# Altium integrated library Infineon Microcontroller 32-bit TriCore AURIX.IntLib: 81 symbols (part 1 of 8)
Pins are listed as number, name and electrical type; pins without a type are passive.

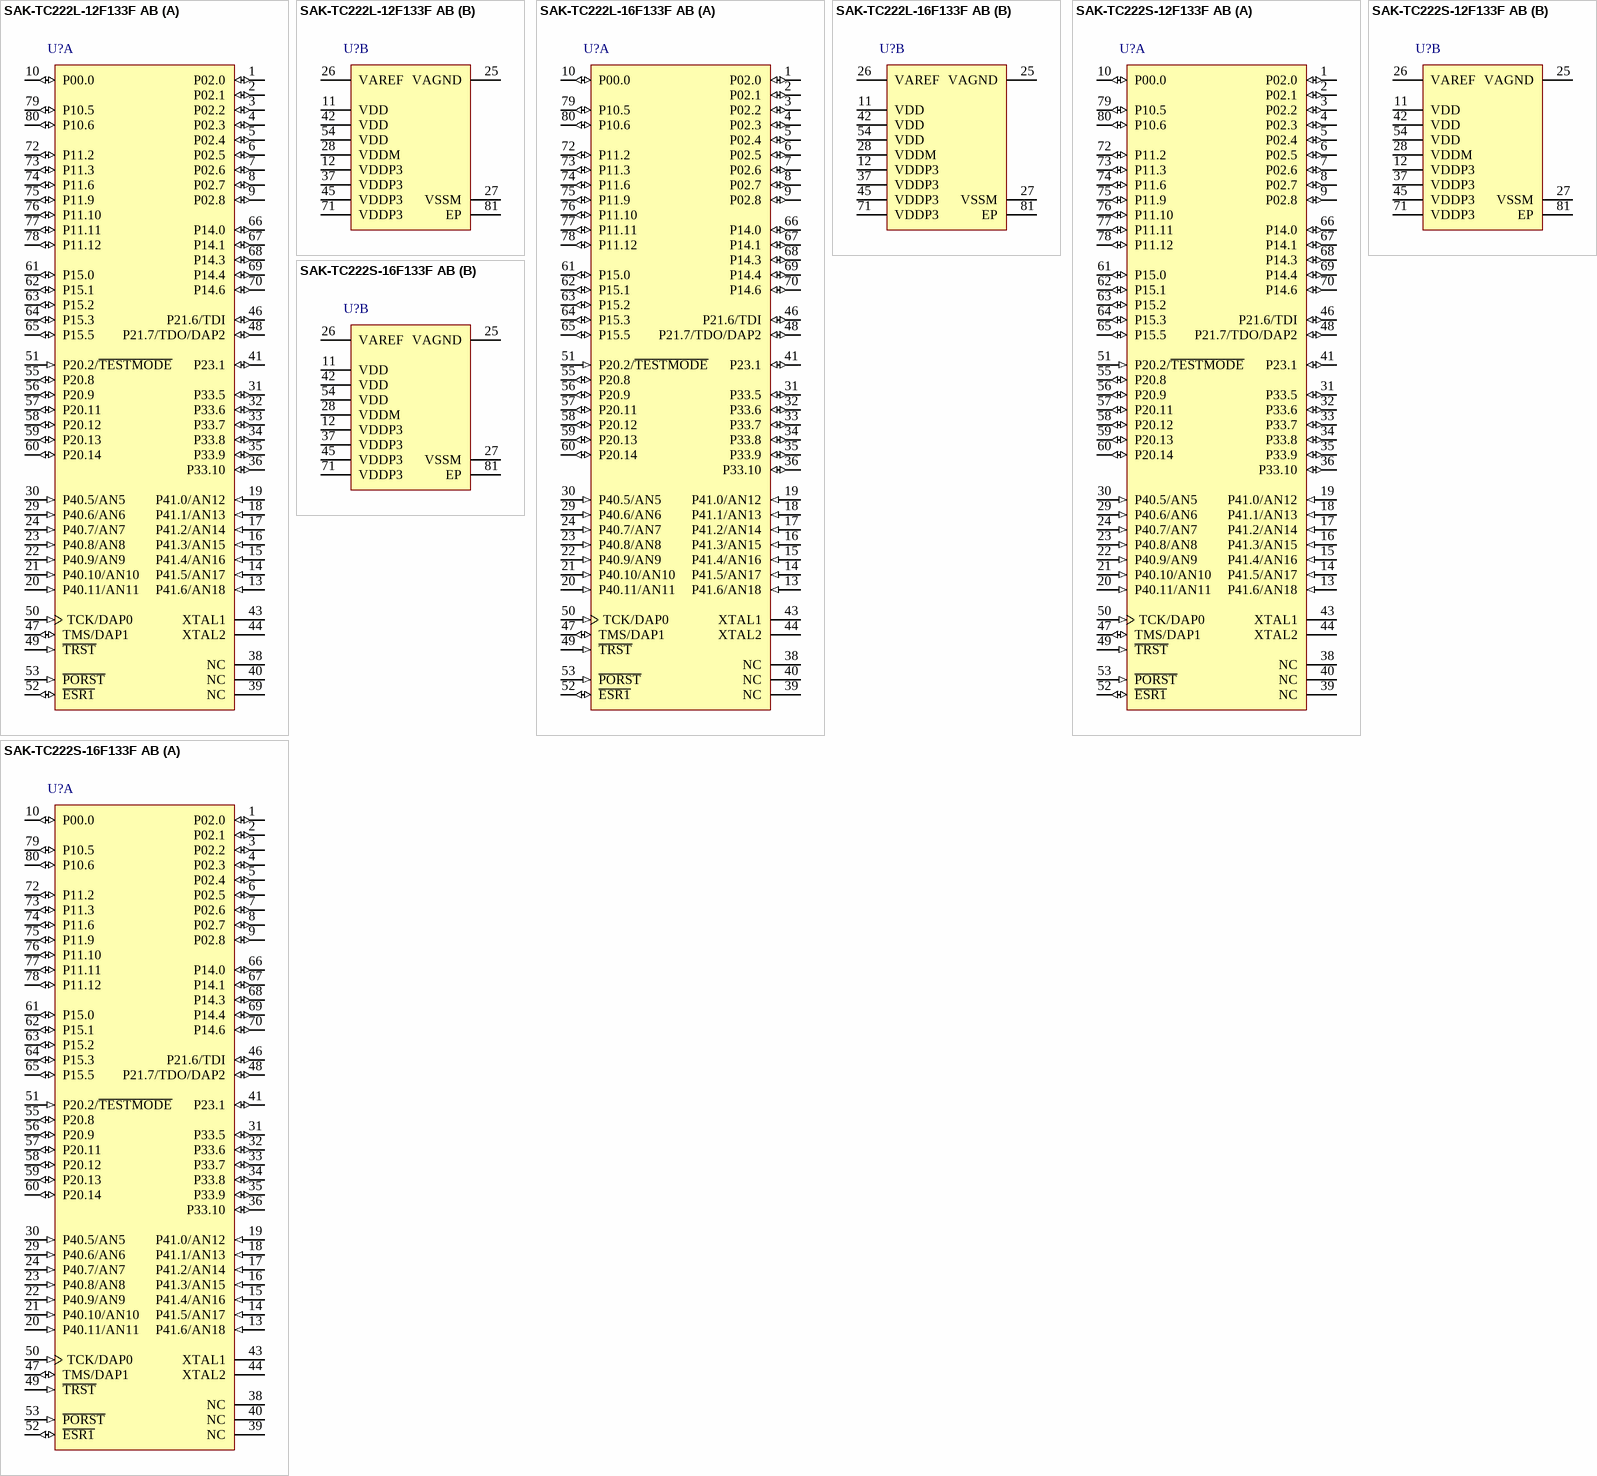
[diagram p0: symbols SAK-TC222L-12F133F AB to SAK-TC222S-16F133F AB]

## SAK-TC222L-12F133F AB
designator U?
32-bit multi-core TriCore AURIX microcontroller with 64 KB SRAM, 0.75 MB Flash, 133 MHz Frequency, -40 to 125 degC, PG-TQFP-80; Manufacturer: Infineon; ADC Chan.: 14; Core 0 TC16E DSPR (KB): 88; Core 0 TC16E PSPR (KB): 8; DFLASH (KB@cycles): 64@125k; ETH: No; Flash (MB): 0.75; Freq. (MHz): 133; Lock-step: Yes; Total SRAM (KB): 64; Derivative: SAK-TC222L-12F133F AB; DatasheetVersion: Rev. 0.7; PackageReference: PG-TQFP-80-7; PackageDescription: 80-Pin Plastic (Green) Low Profile Quad Flat Package, 10 x 10 mm Body, 0.4 mm Pitch; FlexRay (#/ch.): No; HSM: No; Supplier Part Reference: TC222L12F133FABKXUMA1; Mounting Technology: Surface Mount; PartNumber: SAK-TC222L-12F133F AB; ComponentLink1Description: Manufacturer URL; ComponentLink1URL: http://www.infineon.com/
footprint INF-PG-TQFP-80-7-5700X5700TP_V (QFP, 80-Leads, Body 10x10mm, Pitch 0.4mm, Thermal Pad 5.7x5.7mm)
part A pins: 1 P02.0 (io), 2 P02.1 (io), 3 P02.2 (io), 4 P02.3 (io), 5 P02.4 (io), 6 P02.5 (io), 7 P02.6 (io), 8 P02.7 (io), 9 P02.8 (io), 10 P00.0 (io), 13 P41.6/AN18 (in), 14 P41.5/AN17 (in), 15 P41.4/AN16 (in), 16 P41.3/AN15 (in), 17 P41.2/AN14 (in), 18 P41.1/AN13 (in), 19 P41.0/AN12 (in), 20 P40.11/AN11 (in), 21 P40.10/AN10 (in), 22 P40.9/AN9 (in), 23 P40.8/AN8 (in), 24 P40.7/AN7 (in), 29 P40.6/AN6 (in), 30 P40.5/AN5 (in), 31 P33.5 (io), 32 P33.6 (io), 33 P33.7 (io), 34 P33.8 (io), 35 P33.9 (io), 36 P33.10 (io), 38 NC, 39 NC, 40 NC, 41 P23.1 (io), 43 XTAL1, 44 XTAL2, 46 P21.6/TDI (io), 47 TMS/DAP1 (io), 48 P21.7/TDO/DAP2 (io), 49 ~{TRST} (in), 50 TCK/DAP0 (in), 51 P20.2/~{TESTMODE} (in), 52 ~{ESR1} (io), 53 ~{PORST} (in), 55 P20.8 (io), 56 P20.9 (io), 57 P20.11 (io), 58 P20.12 (io), 59 P20.13 (io), 60 P20.14 (io), 61 P15.0 (io), 62 P15.1 (io), 63 P15.2 (io), 64 P15.3 (io), 65 P15.5 (io), 66 P14.0 (io), 67 P14.1 (io), 68 P14.3 (io), 69 P14.4 (io), 70 P14.6 (io), 72 P11.2 (io), 73 P11.3 (io), 74 P11.6 (io), 75 P11.9 (io), 76 P11.10 (io), 77 P11.11 (io), 78 P11.12 (io), 79 P10.5 (io), 80 P10.6 (io)
part B pins: 11 VDD (power), 12 VDDP3 (power), 25 VAGND (power), 26 VAREF (power), 27 VSSM (power), 28 VDDM (power), 37 VDDP3 (power), 42 VDD (power), 45 VDDP3 (power), 54 VDD (power), 71 VDDP3 (power), 81 EP

## SAK-TC222L-16F133F AB
designator U?
32-bit multi-core TriCore AURIX microcontroller with 96 KB SRAM, 1 MB Flash, 133 MHz Frequency, -40 to 125 degC, PG-TQFP-80; Manufacturer: Infineon; ADC Chan.: 14; Core 0 TC16E DSPR (KB): 88; Core 0 TC16E PSPR (KB): 8; DFLASH (KB@cycles): 96@125k; ETH: No; Flash (MB): 1; Freq. (MHz): 133; Lock-step: Yes; Total SRAM (KB): 96; Derivative: SAK-TC222L-16F133F AB; DatasheetVersion: Rev. 0.7; PackageReference: PG-TQFP-80-7; PackageDescription: 80-Pin Plastic (Green) Low Profile Quad Flat Package, 10 x 10 mm Body, 0.4 mm Pitch; Supplier 1: Mouser; Supplier Part Number 1: 726-TC222L16F133FABK; FlexRay (#/ch.): No; HSM: No; Supplier Part Reference: TC222L16F133FABKXUMA1; Mounting Technology: Surface Mount; PartNumber: SAK-TC222L-16F133F AB; ComponentLink1Description: Manufacturer URL; ComponentLink1URL: http://www.infineon.com/
footprint INF-PG-TQFP-80-7-5700X5700TP_V (QFP, 80-Leads, Body 10x10mm, Pitch 0.4mm, Thermal Pad 5.7x5.7mm)
part A pins: 1 P02.0 (io), 2 P02.1 (io), 3 P02.2 (io), 4 P02.3 (io), 5 P02.4 (io), 6 P02.5 (io), 7 P02.6 (io), 8 P02.7 (io), 9 P02.8 (io), 10 P00.0 (io), 13 P41.6/AN18 (in), 14 P41.5/AN17 (in), 15 P41.4/AN16 (in), 16 P41.3/AN15 (in), 17 P41.2/AN14 (in), 18 P41.1/AN13 (in), 19 P41.0/AN12 (in), 20 P40.11/AN11 (in), 21 P40.10/AN10 (in), 22 P40.9/AN9 (in), 23 P40.8/AN8 (in), 24 P40.7/AN7 (in), 29 P40.6/AN6 (in), 30 P40.5/AN5 (in), 31 P33.5 (io), 32 P33.6 (io), 33 P33.7 (io), 34 P33.8 (io), 35 P33.9 (io), 36 P33.10 (io), 38 NC, 39 NC, 40 NC, 41 P23.1 (io), 43 XTAL1, 44 XTAL2, 46 P21.6/TDI (io), 47 TMS/DAP1 (io), 48 P21.7/TDO/DAP2 (io), 49 ~{TRST} (in), 50 TCK/DAP0 (in), 51 P20.2/~{TESTMODE} (in), 52 ~{ESR1} (io), 53 ~{PORST} (in), 55 P20.8 (io), 56 P20.9 (io), 57 P20.11 (io), 58 P20.12 (io), 59 P20.13 (io), 60 P20.14 (io), 61 P15.0 (io), 62 P15.1 (io), 63 P15.2 (io), 64 P15.3 (io), 65 P15.5 (io), 66 P14.0 (io), 67 P14.1 (io), 68 P14.3 (io), 69 P14.4 (io), 70 P14.6 (io), 72 P11.2 (io), 73 P11.3 (io), 74 P11.6 (io), 75 P11.9 (io), 76 P11.10 (io), 77 P11.11 (io), 78 P11.12 (io), 79 P10.5 (io), 80 P10.6 (io)
part B pins: 11 VDD (power), 12 VDDP3 (power), 25 VAGND (power), 26 VAREF (power), 27 VSSM (power), 28 VDDM (power), 37 VDDP3 (power), 42 VDD (power), 45 VDDP3 (power), 54 VDD (power), 71 VDDP3 (power), 81 EP

## SAK-TC222S-12F133F AB
designator U?
32-bit multi-core TriCore AURIX microcontroller with 64 KB SRAM, 0.75 MB Flash, 133 MHz Frequency, -40 to 125 degC, PG-TQFP-80; Manufacturer: Infineon; ADC Chan.: 14; Core 0 TC16E DSPR (KB): 88; Core 0 TC16E PSPR (KB): 8; DFLASH (KB@cycles): 64@125k; ETH: No; Flash (MB): 0.75; Freq. (MHz): 133; Total SRAM (KB): 64; Derivative: SAK-TC222S-12F133F AB; DatasheetVersion: Rev. 0.7; PackageReference: PG-TQFP-80-7; PackageDescription: 80-Pin Plastic (Green) Low Profile Quad Flat Package, 10 x 10 mm Body, 0.4 mm Pitch; FlexRay (#/ch.): No; HSM: No; Lock-step: No; Supplier Part Reference: TC222S12F133FABKXUMA1; Mounting Technology: Surface Mount; PartNumber: SAK-TC222S-12F133F AB; ComponentLink1Description: Manufacturer URL; ComponentLink1URL: http://www.infineon.com/
footprint INF-PG-TQFP-80-7-5700X5700TP_V (QFP, 80-Leads, Body 10x10mm, Pitch 0.4mm, Thermal Pad 5.7x5.7mm)
part A pins: 1 P02.0 (io), 2 P02.1 (io), 3 P02.2 (io), 4 P02.3 (io), 5 P02.4 (io), 6 P02.5 (io), 7 P02.6 (io), 8 P02.7 (io), 9 P02.8 (io), 10 P00.0 (io), 13 P41.6/AN18 (in), 14 P41.5/AN17 (in), 15 P41.4/AN16 (in), 16 P41.3/AN15 (in), 17 P41.2/AN14 (in), 18 P41.1/AN13 (in), 19 P41.0/AN12 (in), 20 P40.11/AN11 (in), 21 P40.10/AN10 (in), 22 P40.9/AN9 (in), 23 P40.8/AN8 (in), 24 P40.7/AN7 (in), 29 P40.6/AN6 (in), 30 P40.5/AN5 (in), 31 P33.5 (io), 32 P33.6 (io), 33 P33.7 (io), 34 P33.8 (io), 35 P33.9 (io), 36 P33.10 (io), 38 NC, 39 NC, 40 NC, 41 P23.1 (io), 43 XTAL1, 44 XTAL2, 46 P21.6/TDI (io), 47 TMS/DAP1 (io), 48 P21.7/TDO/DAP2 (io), 49 ~{TRST} (in), 50 TCK/DAP0 (in), 51 P20.2/~{TESTMODE} (in), 52 ~{ESR1} (io), 53 ~{PORST} (in), 55 P20.8 (io), 56 P20.9 (io), 57 P20.11 (io), 58 P20.12 (io), 59 P20.13 (io), 60 P20.14 (io), 61 P15.0 (io), 62 P15.1 (io), 63 P15.2 (io), 64 P15.3 (io), 65 P15.5 (io), 66 P14.0 (io), 67 P14.1 (io), 68 P14.3 (io), 69 P14.4 (io), 70 P14.6 (io), 72 P11.2 (io), 73 P11.3 (io), 74 P11.6 (io), 75 P11.9 (io), 76 P11.10 (io), 77 P11.11 (io), 78 P11.12 (io), 79 P10.5 (io), 80 P10.6 (io)
part B pins: 11 VDD (power), 12 VDDP3 (power), 25 VAGND (power), 26 VAREF (power), 27 VSSM (power), 28 VDDM (power), 37 VDDP3 (power), 42 VDD (power), 45 VDDP3 (power), 54 VDD (power), 71 VDDP3 (power), 81 EP

## SAK-TC222S-16F133F AB
designator U?
32-bit multi-core TriCore AURIX microcontroller with 96 KB SRAM, 1 MB Flash, 133 MHz Frequency, -40 to 125 degC, PG-TQFP-80; Manufacturer: Infineon; ADC Chan.: 14; Core 0 TC16E DSPR (KB): 88; Core 0 TC16E PSPR (KB): 8; DFLASH (KB@cycles): 96@125k; ETH: No; Flash (MB): 1; Freq. (MHz): 133; Total SRAM (KB): 96; Derivative: SAK-TC222S-16F133F AB; DatasheetVersion: Rev. 0.7; PackageReference: PG-TQFP-80-7; PackageDescription: 80-Pin Plastic (Green) Low Profile Quad Flat Package, 10 x 10 mm Body, 0.4 mm Pitch; Supplier 1: Mouser; Supplier Part Number 1: 726-TC222S16F133FABK; FlexRay (#/ch.): No; HSM: No; Lock-step: No; Supplier Part Reference: TC222S16F133FABKXUMA1; Mounting Technology: Surface Mount; PartNumber: SAK-TC222S-16F133F AB; ComponentLink1Description: Manufacturer URL; ComponentLink1URL: http://www.infineon.com/
footprint INF-PG-TQFP-80-7-5700X5700TP_V (QFP, 80-Leads, Body 10x10mm, Pitch 0.4mm, Thermal Pad 5.7x5.7mm)
part A pins: 1 P02.0 (io), 2 P02.1 (io), 3 P02.2 (io), 4 P02.3 (io), 5 P02.4 (io), 6 P02.5 (io), 7 P02.6 (io), 8 P02.7 (io), 9 P02.8 (io), 10 P00.0 (io), 13 P41.6/AN18 (in), 14 P41.5/AN17 (in), 15 P41.4/AN16 (in), 16 P41.3/AN15 (in), 17 P41.2/AN14 (in), 18 P41.1/AN13 (in), 19 P41.0/AN12 (in), 20 P40.11/AN11 (in), 21 P40.10/AN10 (in), 22 P40.9/AN9 (in), 23 P40.8/AN8 (in), 24 P40.7/AN7 (in), 29 P40.6/AN6 (in), 30 P40.5/AN5 (in), 31 P33.5 (io), 32 P33.6 (io), 33 P33.7 (io), 34 P33.8 (io), 35 P33.9 (io), 36 P33.10 (io), 38 NC, 39 NC, 40 NC, 41 P23.1 (io), 43 XTAL1, 44 XTAL2, 46 P21.6/TDI (io), 47 TMS/DAP1 (io), 48 P21.7/TDO/DAP2 (io), 49 ~{TRST} (in), 50 TCK/DAP0 (in), 51 P20.2/~{TESTMODE} (in), 52 ~{ESR1} (io), 53 ~{PORST} (in), 55 P20.8 (io), 56 P20.9 (io), 57 P20.11 (io), 58 P20.12 (io), 59 P20.13 (io), 60 P20.14 (io), 61 P15.0 (io), 62 P15.1 (io), 63 P15.2 (io), 64 P15.3 (io), 65 P15.5 (io), 66 P14.0 (io), 67 P14.1 (io), 68 P14.3 (io), 69 P14.4 (io), 70 P14.6 (io), 72 P11.2 (io), 73 P11.3 (io), 74 P11.6 (io), 75 P11.9 (io), 76 P11.10 (io), 77 P11.11 (io), 78 P11.12 (io), 79 P10.5 (io), 80 P10.6 (io)
part B pins: 11 VDD (power), 12 VDDP3 (power), 25 VAGND (power), 26 VAREF (power), 27 VSSM (power), 28 VDDM (power), 37 VDDP3 (power), 42 VDD (power), 45 VDDP3 (power), 54 VDD (power), 71 VDDP3 (power), 81 EP

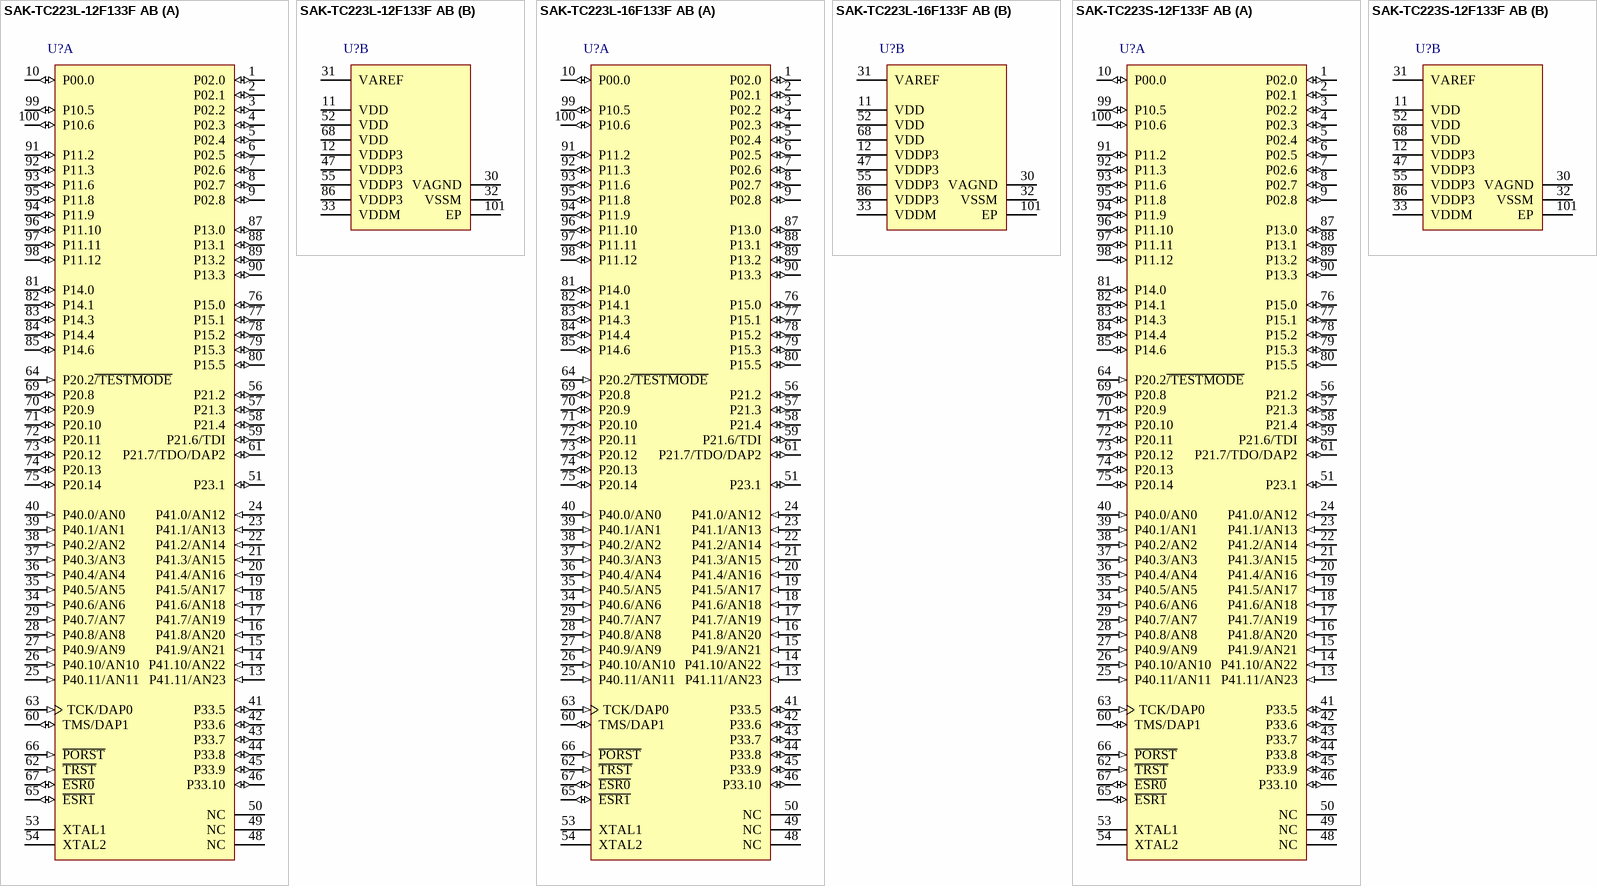
[diagram p1: symbols SAK-TC223L-12F133F AB to SAK-TC223S-12F133F AB]

## SAK-TC223L-12F133F AB
designator U?
32-bit multi-core TriCore AURIX microcontroller with 64 KB SRAM, 0.75 MB Flash, 133 MHz Frequency, -40 to 125 degC, PG-TQFP-100; Manufacturer: Infineon; ADC Chan.: 24; Core 0 TC16E DSPR (KB): 88; Core 0 TC16E PSPR (KB): 8; DFLASH (KB@cycles): 64@125k; ETH: No; Flash (MB): 0.75; Freq. (MHz): 133; Lock-step: Yes; Total SRAM (KB): 64; Derivative: SAK-TC223L-12F133F AB; DatasheetVersion: Rev. 0.7; PackageReference: PG-TQFP-100-23; PackageDescription: 100-Pin Plastic (Green) Low Profile Quad Flat Package, 12 x 12 mm Body, 0.4 mm Pitch; FlexRay (#/ch.): No; HSM: No; Supplier Part Reference: TC223L12F133FABKXUMA1; Mounting Technology: Surface Mount; PartNumber: SAK-TC223L-12F133F AB; ComponentLink1Description: Manufacturer URL; ComponentLink1URL: http://www.infineon.com/
footprint INF-PG-TQFP-100-23-5700X5700TP_V (QFP, 100-Leads, Body 12x12mm, Pitch 0.4mm, Thermal Pad 5.7x5.7mm)
part A pins: 1 P02.0 (io), 2 P02.1 (io), 3 P02.2 (io), 4 P02.3 (io), 5 P02.4 (io), 6 P02.5 (io), 7 P02.6 (io), 8 P02.7 (io), 9 P02.8 (io), 10 P00.0 (io), 13 P41.11/AN23 (in), 14 P41.10/AN22 (in), 15 P41.9/AN21 (in), 16 P41.8/AN20 (in), 17 P41.7/AN19 (in), 18 P41.6/AN18 (in), 19 P41.5/AN17 (in), 20 P41.4/AN16 (in), 21 P41.3/AN15 (in), 22 P41.2/AN14 (in), 23 P41.1/AN13 (in), 24 P41.0/AN12 (in), 25 P40.11/AN11 (in), 26 P40.10/AN10 (in), 27 P40.9/AN9 (in), 28 P40.8/AN8 (in), 29 P40.7/AN7 (in), 34 P40.6/AN6 (in), 35 P40.5/AN5 (in), 36 P40.4/AN4 (in), 37 P40.3/AN3 (in), 38 P40.2/AN2 (in), 39 P40.1/AN1 (in), 40 P40.0/AN0 (in), 41 P33.5 (io), 42 P33.6 (io), 43 P33.7 (io), 44 P33.8 (io), 45 P33.9 (io), 46 P33.10 (io), 48 NC, 49 NC, 50 NC, 51 P23.1 (io), 53 XTAL1, 54 XTAL2, 56 P21.2 (io), 57 P21.3 (io), 58 P21.4 (io), 59 P21.6/TDI (io), 60 TMS/DAP1 (io), 61 P21.7/TDO/DAP2 (io), 62 ~{TRST} (in), 63 TCK/DAP0 (in), 64 P20.2~{/TESTMODE} (in), 65 ~{ESR1} (io), 66 ~{PORST} (in), 67 ~{ESR0} (io), 69 P20.8 (io), 70 P20.9 (io), 71 P20.10 (io), 72 P20.11 (io), 73 P20.12 (io), 74 P20.13 (io), 75 P20.14 (io), 76 P15.0 (io), 77 P15.1 (io), 78 P15.2 (io), 79 P15.3 (io), 80 P15.5 (io), 81 P14.0 (io), 82 P14.1 (io), 83 P14.3 (io), 84 P14.4 (io), 85 P14.6 (io), 87 P13.0 (io), 88 P13.1 (io), 89 P13.2 (io), 90 P13.3 (io), 91 P11.2 (io), 92 P11.3 (io), 93 P11.6 (io), 94 P11.9 (io), 95 P11.8 (io), 96 P11.10 (io), 97 P11.11 (io), 98 P11.12 (io), 99 P10.5 (io), 100 P10.6 (io)
part B pins: 11 VDD (power), 12 VDDP3 (power), 30 VAGND (power), 31 VAREF (power), 32 VSSM (power), 33 VDDM (power), 47 VDDP3 (power), 52 VDD (power), 55 VDDP3 (power), 68 VDD (power), 86 VDDP3 (power), 101 EP

## SAK-TC223L-16F133F AB
designator U?
32-bit multi-core TriCore AURIX microcontroller with 96 KB SRAM, 1 MB Flash, 133 MHz Frequency, -40 to 125 degC, PG-TQFP-100; Manufacturer: Infineon; ADC Chan.: 24; Core 0 TC16E DSPR (KB): 88; Core 0 TC16E PSPR (KB): 8; DFLASH (KB@cycles): 96@125k; ETH: No; Flash (MB): 1; Freq. (MHz): 133; Lock-step: Yes; Total SRAM (KB): 96; Derivative: SAK-TC223L-16F133F AB; DatasheetVersion: Rev. 0.7; PackageReference: PG-TQFP-100-23; PackageDescription: 100-Pin Plastic (Green) Low Profile Quad Flat Package, 12 x 12 mm Body, 0.4 mm Pitch; Supplier 1: Mouser; Supplier Part Number 1: 726-TC223L16F133FABK; FlexRay (#/ch.): No; HSM: No; Supplier Part Reference: TC223L16F133FABKXUMA1; Mounting Technology: Surface Mount; PartNumber: SAK-TC223L-16F133F AB; ComponentLink1Description: Manufacturer URL; ComponentLink1URL: http://www.infineon.com/
footprint INF-PG-TQFP-100-23-5700X5700TP_V (QFP, 100-Leads, Body 12x12mm, Pitch 0.4mm, Thermal Pad 5.7x5.7mm)
part A pins: 1 P02.0 (io), 2 P02.1 (io), 3 P02.2 (io), 4 P02.3 (io), 5 P02.4 (io), 6 P02.5 (io), 7 P02.6 (io), 8 P02.7 (io), 9 P02.8 (io), 10 P00.0 (io), 13 P41.11/AN23 (in), 14 P41.10/AN22 (in), 15 P41.9/AN21 (in), 16 P41.8/AN20 (in), 17 P41.7/AN19 (in), 18 P41.6/AN18 (in), 19 P41.5/AN17 (in), 20 P41.4/AN16 (in), 21 P41.3/AN15 (in), 22 P41.2/AN14 (in), 23 P41.1/AN13 (in), 24 P41.0/AN12 (in), 25 P40.11/AN11 (in), 26 P40.10/AN10 (in), 27 P40.9/AN9 (in), 28 P40.8/AN8 (in), 29 P40.7/AN7 (in), 34 P40.6/AN6 (in), 35 P40.5/AN5 (in), 36 P40.4/AN4 (in), 37 P40.3/AN3 (in), 38 P40.2/AN2 (in), 39 P40.1/AN1 (in), 40 P40.0/AN0 (in), 41 P33.5 (io), 42 P33.6 (io), 43 P33.7 (io), 44 P33.8 (io), 45 P33.9 (io), 46 P33.10 (io), 48 NC, 49 NC, 50 NC, 51 P23.1 (io), 53 XTAL1, 54 XTAL2, 56 P21.2 (io), 57 P21.3 (io), 58 P21.4 (io), 59 P21.6/TDI (io), 60 TMS/DAP1 (io), 61 P21.7/TDO/DAP2 (io), 62 ~{TRST} (in), 63 TCK/DAP0 (in), 64 P20.2~{/TESTMODE} (in), 65 ~{ESR1} (io), 66 ~{PORST} (in), 67 ~{ESR0} (io), 69 P20.8 (io), 70 P20.9 (io), 71 P20.10 (io), 72 P20.11 (io), 73 P20.12 (io), 74 P20.13 (io), 75 P20.14 (io), 76 P15.0 (io), 77 P15.1 (io), 78 P15.2 (io), 79 P15.3 (io), 80 P15.5 (io), 81 P14.0 (io), 82 P14.1 (io), 83 P14.3 (io), 84 P14.4 (io), 85 P14.6 (io), 87 P13.0 (io), 88 P13.1 (io), 89 P13.2 (io), 90 P13.3 (io), 91 P11.2 (io), 92 P11.3 (io), 93 P11.6 (io), 94 P11.9 (io), 95 P11.8 (io), 96 P11.10 (io), 97 P11.11 (io), 98 P11.12 (io), 99 P10.5 (io), 100 P10.6 (io)
part B pins: 11 VDD (power), 12 VDDP3 (power), 30 VAGND (power), 31 VAREF (power), 32 VSSM (power), 33 VDDM (power), 47 VDDP3 (power), 52 VDD (power), 55 VDDP3 (power), 68 VDD (power), 86 VDDP3 (power), 101 EP

## SAK-TC223S-12F133F AB
designator U?
32-bit multi-core TriCore AURIX microcontroller with 64 KB SRAM, 0.75 MB Flash, 133 MHz Frequency, -40 to 125 degC, PG-TQFP-100; Manufacturer: Infineon; ADC Chan.: 24; Core 0 TC16E DSPR (KB): 88; Core 0 TC16E PSPR (KB): 8; DFLASH (KB@cycles): 64@125k; ETH: No; Flash (MB): 0.75; Freq. (MHz): 133; Total SRAM (KB): 64; Derivative: SAK-TC223S-12F133F AB; DatasheetVersion: Rev. 0.7; PackageReference: PG-TQFP-100-23; PackageDescription: 100-Pin Plastic (Green) Low Profile Quad Flat Package, 12 x 12 mm Body, 0.4 mm Pitch; FlexRay (#/ch.): No; HSM: No; Lock-step: No; Supplier Part Reference: TC223S12F133FABKXUMA1; Mounting Technology: Surface Mount; PartNumber: SAK-TC223S-12F133F AB; ComponentLink1Description: Manufacturer URL; ComponentLink1URL: http://www.infineon.com/
footprint INF-PG-TQFP-100-23-5700X5700TP_V (QFP, 100-Leads, Body 12x12mm, Pitch 0.4mm, Thermal Pad 5.7x5.7mm)
part A pins: 1 P02.0 (io), 2 P02.1 (io), 3 P02.2 (io), 4 P02.3 (io), 5 P02.4 (io), 6 P02.5 (io), 7 P02.6 (io), 8 P02.7 (io), 9 P02.8 (io), 10 P00.0 (io), 13 P41.11/AN23 (in), 14 P41.10/AN22 (in), 15 P41.9/AN21 (in), 16 P41.8/AN20 (in), 17 P41.7/AN19 (in), 18 P41.6/AN18 (in), 19 P41.5/AN17 (in), 20 P41.4/AN16 (in), 21 P41.3/AN15 (in), 22 P41.2/AN14 (in), 23 P41.1/AN13 (in), 24 P41.0/AN12 (in), 25 P40.11/AN11 (in), 26 P40.10/AN10 (in), 27 P40.9/AN9 (in), 28 P40.8/AN8 (in), 29 P40.7/AN7 (in), 34 P40.6/AN6 (in), 35 P40.5/AN5 (in), 36 P40.4/AN4 (in), 37 P40.3/AN3 (in), 38 P40.2/AN2 (in), 39 P40.1/AN1 (in), 40 P40.0/AN0 (in), 41 P33.5 (io), 42 P33.6 (io), 43 P33.7 (io), 44 P33.8 (io), 45 P33.9 (io), 46 P33.10 (io), 48 NC, 49 NC, 50 NC, 51 P23.1 (io), 53 XTAL1, 54 XTAL2, 56 P21.2 (io), 57 P21.3 (io), 58 P21.4 (io), 59 P21.6/TDI (io), 60 TMS/DAP1 (io), 61 P21.7/TDO/DAP2 (io), 62 ~{TRST} (in), 63 TCK/DAP0 (in), 64 P20.2~{/TESTMODE} (in), 65 ~{ESR1} (io), 66 ~{PORST} (in), 67 ~{ESR0} (io), 69 P20.8 (io), 70 P20.9 (io), 71 P20.10 (io), 72 P20.11 (io), 73 P20.12 (io), 74 P20.13 (io), 75 P20.14 (io), 76 P15.0 (io), 77 P15.1 (io), 78 P15.2 (io), 79 P15.3 (io), 80 P15.5 (io), 81 P14.0 (io), 82 P14.1 (io), 83 P14.3 (io), 84 P14.4 (io), 85 P14.6 (io), 87 P13.0 (io), 88 P13.1 (io), 89 P13.2 (io), 90 P13.3 (io), 91 P11.2 (io), 92 P11.3 (io), 93 P11.6 (io), 94 P11.9 (io), 95 P11.8 (io), 96 P11.10 (io), 97 P11.11 (io), 98 P11.12 (io), 99 P10.5 (io), 100 P10.6 (io)
part B pins: 11 VDD (power), 12 VDDP3 (power), 30 VAGND (power), 31 VAREF (power), 32 VSSM (power), 33 VDDM (power), 47 VDDP3 (power), 52 VDD (power), 55 VDDP3 (power), 68 VDD (power), 86 VDDP3 (power), 101 EP

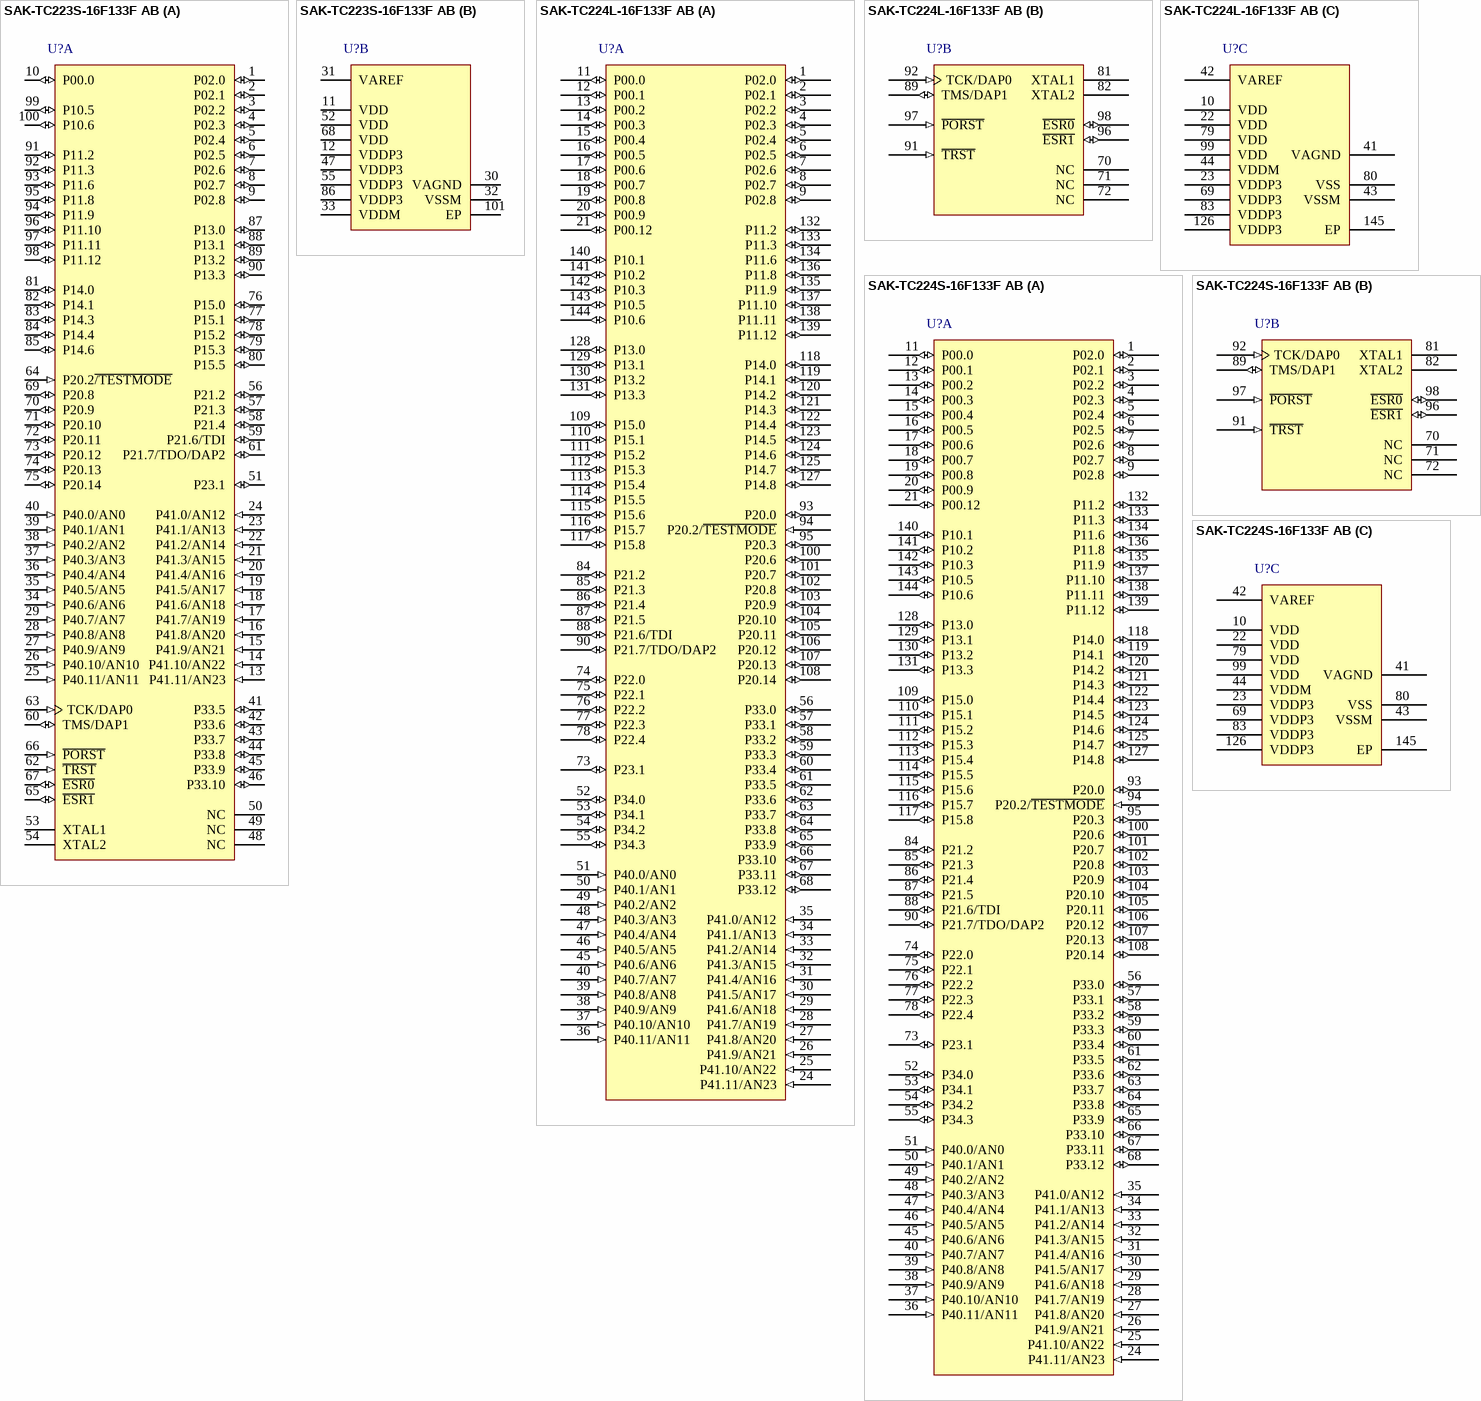
[diagram p2: symbols SAK-TC223S-16F133F AB to SAK-TC224S-16F133F AB]

## SAK-TC223S-16F133F AB
designator U?
32-bit multi-core TriCore AURIX microcontroller with 96 KB SRAM, 1 MB Flash, 133 MHz Frequency, -40 to 125 degC, PG-TQFP-100; Manufacturer: Infineon; ADC Chan.: 24; Core 0 TC16E DSPR (KB): 88; Core 0 TC16E PSPR (KB): 8; DFLASH (KB@cycles): 96@125k; ETH: No; Flash (MB): 1; Freq. (MHz): 133; Total SRAM (KB): 96; Derivative: SAK-TC223S-16F133F AB; DatasheetVersion: Rev. 0.7; PackageReference: PG-TQFP-100-23; PackageDescription: 100-Pin Plastic (Green) Low Profile Quad Flat Package, 12 x 12 mm Body, 0.4 mm Pitch; Supplier 1: Mouser; Supplier Part Number 1: 726-TC223S16F133FABK; FlexRay (#/ch.): No; HSM: No; Lock-step: No; Supplier Part Reference: TC223S16F133FABKXUMA1; Mounting Technology: Surface Mount; PartNumber: SAK-TC223S-16F133F AB; ComponentLink1Description: Manufacturer URL; ComponentLink1URL: http://www.infineon.com/
footprint INF-PG-TQFP-100-23-5700X5700TP_V (QFP, 100-Leads, Body 12x12mm, Pitch 0.4mm, Thermal Pad 5.7x5.7mm)
part A pins: 1 P02.0 (io), 2 P02.1 (io), 3 P02.2 (io), 4 P02.3 (io), 5 P02.4 (io), 6 P02.5 (io), 7 P02.6 (io), 8 P02.7 (io), 9 P02.8 (io), 10 P00.0 (io), 13 P41.11/AN23 (in), 14 P41.10/AN22 (in), 15 P41.9/AN21 (in), 16 P41.8/AN20 (in), 17 P41.7/AN19 (in), 18 P41.6/AN18 (in), 19 P41.5/AN17 (in), 20 P41.4/AN16 (in), 21 P41.3/AN15 (in), 22 P41.2/AN14 (in), 23 P41.1/AN13 (in), 24 P41.0/AN12 (in), 25 P40.11/AN11 (in), 26 P40.10/AN10 (in), 27 P40.9/AN9 (in), 28 P40.8/AN8 (in), 29 P40.7/AN7 (in), 34 P40.6/AN6 (in), 35 P40.5/AN5 (in), 36 P40.4/AN4 (in), 37 P40.3/AN3 (in), 38 P40.2/AN2 (in), 39 P40.1/AN1 (in), 40 P40.0/AN0 (in), 41 P33.5 (io), 42 P33.6 (io), 43 P33.7 (io), 44 P33.8 (io), 45 P33.9 (io), 46 P33.10 (io), 48 NC, 49 NC, 50 NC, 51 P23.1 (io), 53 XTAL1, 54 XTAL2, 56 P21.2 (io), 57 P21.3 (io), 58 P21.4 (io), 59 P21.6/TDI (io), 60 TMS/DAP1 (io), 61 P21.7/TDO/DAP2 (io), 62 ~{TRST} (in), 63 TCK/DAP0 (in), 64 P20.2~{/TESTMODE} (in), 65 ~{ESR1} (io), 66 ~{PORST} (in), 67 ~{ESR0} (io), 69 P20.8 (io), 70 P20.9 (io), 71 P20.10 (io), 72 P20.11 (io), 73 P20.12 (io), 74 P20.13 (io), 75 P20.14 (io), 76 P15.0 (io), 77 P15.1 (io), 78 P15.2 (io), 79 P15.3 (io), 80 P15.5 (io), 81 P14.0 (io), 82 P14.1 (io), 83 P14.3 (io), 84 P14.4 (io), 85 P14.6 (io), 87 P13.0 (io), 88 P13.1 (io), 89 P13.2 (io), 90 P13.3 (io), 91 P11.2 (io), 92 P11.3 (io), 93 P11.6 (io), 94 P11.9 (io), 95 P11.8 (io), 96 P11.10 (io), 97 P11.11 (io), 98 P11.12 (io), 99 P10.5 (io), 100 P10.6 (io)
part B pins: 11 VDD (power), 12 VDDP3 (power), 30 VAGND (power), 31 VAREF (power), 32 VSSM (power), 33 VDDM (power), 47 VDDP3 (power), 52 VDD (power), 55 VDDP3 (power), 68 VDD (power), 86 VDDP3 (power), 101 EP

## SAK-TC224L-16F133F AB
designator U?
32-bit multi-core TriCore AURIX microcontroller with 96 KB SRAM, 1 MB Flash, 133 MHz Frequency, -40 to 125 degC, PG-TQFP-144; Manufacturer: Infineon; ADC Chan.: 24; Core 0 TC16E DSPR (KB): 88; Core 0 TC16E PSPR (KB): 8; DFLASH (KB@cycles): 96@125k; ETH: No; Flash (MB): 1; Freq. (MHz): 133; Lock-step: Yes; Total SRAM (KB): 96; Derivative: SAK-TC224L-16F133F AB; DatasheetVersion: Rev. 0.7; PackageReference: PG-TQFP-144-27; PackageDescription: 144-Pin Plastic (Green) Low Profile Quad Flat Package, 16 x 16 mm Body, 0.4 mm Pitch; Supplier 1: Mouser; Supplier Part Number 1: 726-TC224L16F133FABK; FlexRay (#/ch.): No; HSM: No; Supplier Part Reference: TC224L16F133FABKXUMA1; Mounting Technology: Surface Mount; PartNumber: SAK-TC224L-16F133F AB; ComponentLink1Description: Manufacturer URL; ComponentLink1URL: http://www.infineon.com/
footprint INF-PG-TQFP-144-27-5700X5700TP_V (QFP, 144-Leads, Body 16x16mm, Pitch 0.4mm, Thermal Pad 5.7x5.7mm)
part A pins: 1 P02.0 (io), 2 P02.1 (io), 3 P02.2 (io), 4 P02.3 (io), 5 P02.4 (io), 6 P02.5 (io), 7 P02.6 (io), 8 P02.7 (io), 9 P02.8 (io), 11 P00.0 (io), 12 P00.1 (io), 13 P00.2 (io), 14 P00.3 (io), 15 P00.4 (io), 16 P00.5 (io), 17 P00.6 (io), 18 P00.7 (io), 19 P00.8 (io), 20 P00.9 (io), 21 P00.12 (io), 24 P41.11/AN23 (in), 25 P41.10/AN22 (in), 26 P41.9/AN21 (in), 27 P41.8/AN20 (in), 28 P41.7/AN19 (in), 29 P41.6/AN18 (in), 30 P41.5/AN17 (in), 31 P41.4/AN16 (in), 32 P41.3/AN15 (in), 33 P41.2/AN14 (in), 34 P41.1/AN13 (in), 35 P41.0/AN12 (in), 36 P40.11/AN11 (in), 37 P40.10/AN10 (in), 38 P40.9/AN9 (in), 39 P40.8/AN8 (in), 40 P40.7/AN7 (in), 45 P40.6/AN6 (in), 46 P40.5/AN5 (in), 47 P40.4/AN4 (in), 48 P40.3/AN3 (in), 49 P40.2/AN2 (in), 50 P40.1/AN1 (in), 51 P40.0/AN0 (in), 52 P34.0 (io), 53 P34.1 (io), 54 P34.2 (io), 55 P34.3 (io), 56 P33.0 (io), 57 P33.1 (io), 58 P33.2 (io), 59 P33.3 (io), 60 P33.4 (io), 61 P33.5 (io), 62 P33.6 (io), 63 P33.7 (io), 64 P33.8 (io), 65 P33.9 (io), 66 P33.10 (io), 67 P33.11 (io), 68 P33.12 (io), 73 P23.1 (io), 74 P22.0 (io), 75 P22.1 (io), 76 P22.2 (io), 77 P22.3 (io), 78 P22.4 (io), 84 P21.2 (io), 85 P21.3 (io), 86 P21.4 (io), 87 P21.5 (io), 88 P21.6/TDI (io), 90 P21.7/TDO/DAP2 (io), 93 P20.0 (io), 94 P20.2/~{TESTMODE} (in), 95 P20.3 (io), 100 P20.6 (io), 101 P20.7 (io), 102 P20.8 (io), 103 P20.9 (io), 104 P20.10 (io), 105 P20.11 (io), 106 P20.12 (io), 107 P20.13 (io), 108 P20.14 (io), 109 P15.0 (io), 110 P15.1 (io), 111 P15.2 (io), 112 P15.3 (io), 113 P15.4 (io), 114 P15.5 (io), 115 P15.6 (io), 116 P15.7 (io), 117 P15.8 (io), 118 P14.0 (io), 119 P14.1 (io), 120 P14.2 (io), 121 P14.3 (io), 122 P14.4 (io), 123 P14.5 (io), 124 P14.6 (io), 125 P14.7 (io), 127 P14.8 (io), 128 P13.0 (io), 129 P13.1 (io), 130 P13.2 (io), 131 P13.3 (io), 132 P11.2 (io), 133 P11.3 (io), 134 P11.6 (io), 135 P11.9 (io), 136 P11.8 (io), 137 P11.10 (io), 138 P11.11 (io), 139 P11.12 (io), 140 P10.1 (io), 141 P10.2 (io), 142 P10.3 (io), 143 P10.5 (io), 144 P10.6 (io)
part B pins: 70 NC, 71 NC, 72 NC, 81 XTAL1, 82 XTAL2, 89 TMS/DAP1 (io), 91 ~{TRST} (in), 92 TCK/DAP0 (in), 96 ~{ESR1} (io), 97 ~{PORST} (in), 98 ~{ESR0} (io)
part C pins: 10 VDD (power), 22 VDD (power), 23 VDDP3 (power), 41 VAGND (power), 42 VAREF (power), 43 VSSM (power), 44 VDDM (power), 69 VDDP3 (power), 79 VDD (power), 80 VSS (power), 83 VDDP3 (power), 99 VDD (power), 126 VDDP3 (power), 145 EP

## SAK-TC224S-16F133F AB
designator U?
32-bit multi-core TriCore AURIX microcontroller with 96 KB SRAM, 1 MB Flash, 133 MHz Frequency, -40 to 125 degC, PG-TQFP-144; Manufacturer: Infineon; ADC Chan.: 24; Core 0 TC16E DSPR (KB): 88; Core 0 TC16E PSPR (KB): 8; DFLASH (KB@cycles): 96@125k; ETH: No; Flash (MB): 1; Freq. (MHz): 133; Total SRAM (KB): 96; Derivative: SAK-TC224S-16F133F AB; DatasheetVersion: Rev. 0.7; PackageReference: PG-TQFP-144-27; PackageDescription: 144-Pin Plastic (Green) Low Profile Quad Flat Package, 16 x 16 mm Body, 0.4 mm Pitch; Supplier 1: Mouser; Supplier Part Number 1: 726-TC224S16F133FABK; FlexRay (#/ch.): No; HSM: No; Lock-step: No; Supplier Part Reference: TC224S16F133FABKXUMA1; Mounting Technology: Surface Mount; PartNumber: SAK-TC224S-16F133F AB; ComponentLink1Description: Manufacturer URL; ComponentLink1URL: http://www.infineon.com/
footprint INF-PG-TQFP-144-27-5700X5700TP_V (QFP, 144-Leads, Body 16x16mm, Pitch 0.4mm, Thermal Pad 5.7x5.7mm)
part A pins: 1 P02.0 (io), 2 P02.1 (io), 3 P02.2 (io), 4 P02.3 (io), 5 P02.4 (io), 6 P02.5 (io), 7 P02.6 (io), 8 P02.7 (io), 9 P02.8 (io), 11 P00.0 (io), 12 P00.1 (io), 13 P00.2 (io), 14 P00.3 (io), 15 P00.4 (io), 16 P00.5 (io), 17 P00.6 (io), 18 P00.7 (io), 19 P00.8 (io), 20 P00.9 (io), 21 P00.12 (io), 24 P41.11/AN23 (in), 25 P41.10/AN22 (in), 26 P41.9/AN21 (in), 27 P41.8/AN20 (in), 28 P41.7/AN19 (in), 29 P41.6/AN18 (in), 30 P41.5/AN17 (in), 31 P41.4/AN16 (in), 32 P41.3/AN15 (in), 33 P41.2/AN14 (in), 34 P41.1/AN13 (in), 35 P41.0/AN12 (in), 36 P40.11/AN11 (in), 37 P40.10/AN10 (in), 38 P40.9/AN9 (in), 39 P40.8/AN8 (in), 40 P40.7/AN7 (in), 45 P40.6/AN6 (in), 46 P40.5/AN5 (in), 47 P40.4/AN4 (in), 48 P40.3/AN3 (in), 49 P40.2/AN2 (in), 50 P40.1/AN1 (in), 51 P40.0/AN0 (in), 52 P34.0 (io), 53 P34.1 (io), 54 P34.2 (io), 55 P34.3 (io), 56 P33.0 (io), 57 P33.1 (io), 58 P33.2 (io), 59 P33.3 (io), 60 P33.4 (io), 61 P33.5 (io), 62 P33.6 (io), 63 P33.7 (io), 64 P33.8 (io), 65 P33.9 (io), 66 P33.10 (io), 67 P33.11 (io), 68 P33.12 (io), 73 P23.1 (io), 74 P22.0 (io), 75 P22.1 (io), 76 P22.2 (io), 77 P22.3 (io), 78 P22.4 (io), 84 P21.2 (io), 85 P21.3 (io), 86 P21.4 (io), 87 P21.5 (io), 88 P21.6/TDI (io), 90 P21.7/TDO/DAP2 (io), 93 P20.0 (io), 94 P20.2/~{TESTMODE} (in), 95 P20.3 (io), 100 P20.6 (io), 101 P20.7 (io), 102 P20.8 (io), 103 P20.9 (io), 104 P20.10 (io), 105 P20.11 (io), 106 P20.12 (io), 107 P20.13 (io), 108 P20.14 (io), 109 P15.0 (io), 110 P15.1 (io), 111 P15.2 (io), 112 P15.3 (io), 113 P15.4 (io), 114 P15.5 (io), 115 P15.6 (io), 116 P15.7 (io), 117 P15.8 (io), 118 P14.0 (io), 119 P14.1 (io), 120 P14.2 (io), 121 P14.3 (io), 122 P14.4 (io), 123 P14.5 (io), 124 P14.6 (io), 125 P14.7 (io), 127 P14.8 (io), 128 P13.0 (io), 129 P13.1 (io), 130 P13.2 (io), 131 P13.3 (io), 132 P11.2 (io), 133 P11.3 (io), 134 P11.6 (io), 135 P11.9 (io), 136 P11.8 (io), 137 P11.10 (io), 138 P11.11 (io), 139 P11.12 (io), 140 P10.1 (io), 141 P10.2 (io), 142 P10.3 (io), 143 P10.5 (io), 144 P10.6 (io)
part B pins: 70 NC, 71 NC, 72 NC, 81 XTAL1, 82 XTAL2, 89 TMS/DAP1 (io), 91 ~{TRST} (in), 92 TCK/DAP0 (in), 96 ~{ESR1} (io), 97 ~{PORST} (in), 98 ~{ESR0} (io)
part C pins: 10 VDD (power), 22 VDD (power), 23 VDDP3 (power), 41 VAGND (power), 42 VAREF (power), 43 VSSM (power), 44 VDDM (power), 69 VDDP3 (power), 79 VDD (power), 80 VSS (power), 83 VDDP3 (power), 99 VDD (power), 126 VDDP3 (power), 145 EP

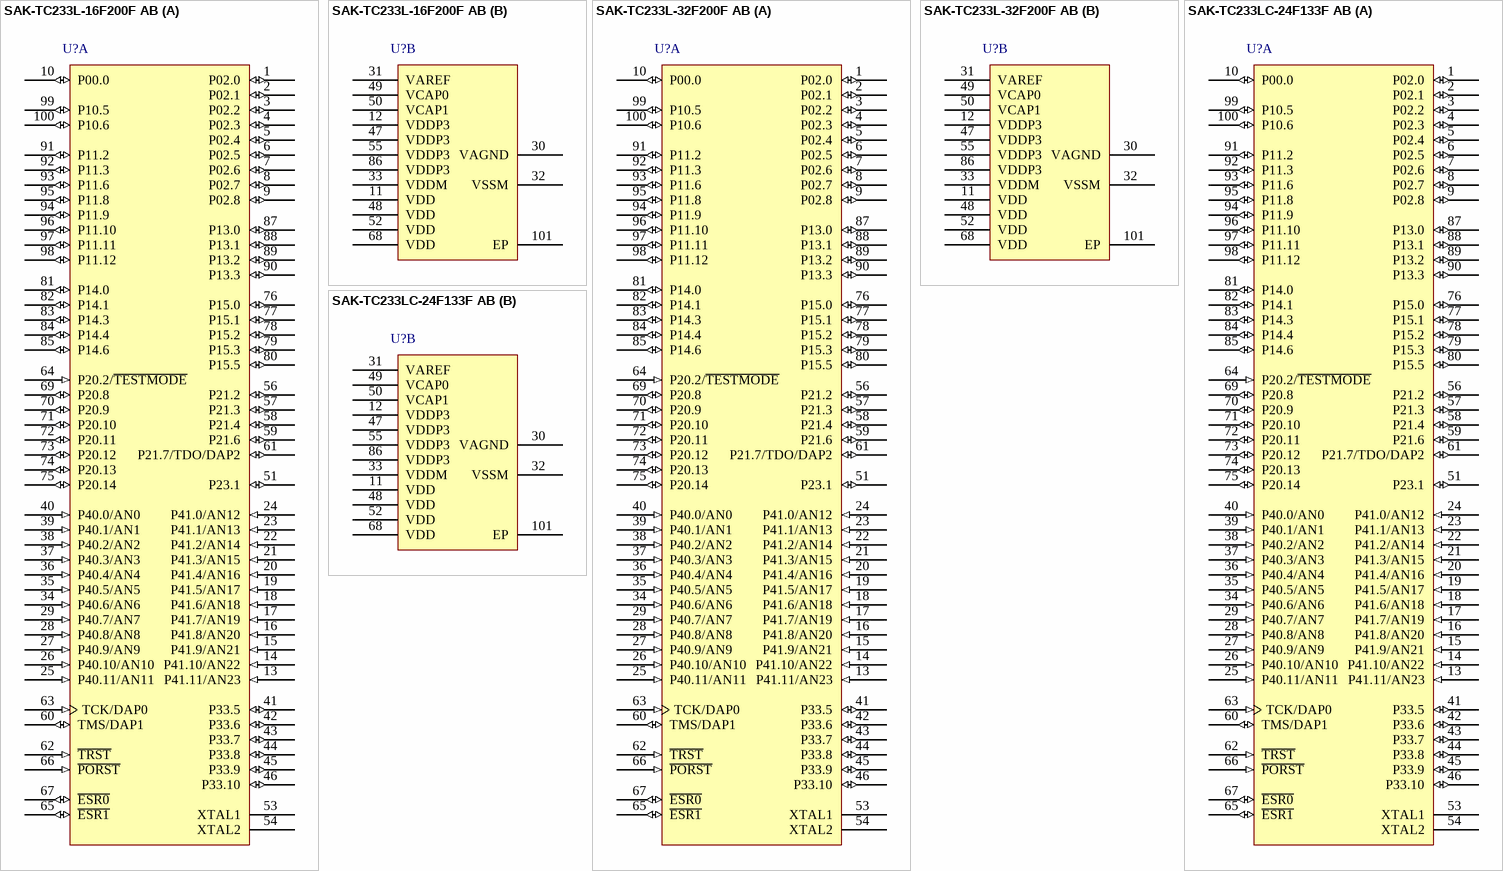
[diagram p3: symbols SAK-TC233L-16F200F AB to SAK-TC233LC-24F133F AB]

## SAK-TC233L-16F200F AB
designator U?
32-bit multi-core TriCore AURIX microcontroller with 96 KB SRAM, 1 MB Flash, 200 MHz Frequency, -40 to 125 degC, PG-TQFP-100; Manufacturer: Infineon; ADC Chan.: 24; Core 0 TC16E DSPR (KB): 88; Core 0 TC16E PSPR (KB): 8; DFLASH (KB@cycles): 128@125k; ETH: No; Flash (MB): 1; FlexRay (#/ch.): 1 / 2; Freq. (MHz): 200; Total SRAM (KB): 96; Derivative: SAK-TC233L-16F200F AB; DatasheetVersion: Rev. 1.1; PackageReference: PG-TQFP-100-23; PackageDescription: 100-Pin Plastic (Green) Low Profile Quad Flat Package, 12 x 12 mm Body, 0.4 mm Pitch; HSM: No; Supplier Part Reference: TC233L16F200FABKXUMA1; Mounting Technology: Surface Mount; PartNumber: SAK-TC233L-16F200F AB; ComponentLink1Description: Manufacturer URL; ComponentLink1URL: http://www.infineon.com/
footprint INF-PG-TQFP-100-23-5700X5700TP_V (QFP, 100-Leads, Body 12x12mm, Pitch 0.4mm, Thermal Pad 5.7x5.7mm)
part A pins: 1 P02.0 (io), 2 P02.1 (io), 3 P02.2 (io), 4 P02.3 (io), 5 P02.4 (io), 6 P02.5 (io), 7 P02.6 (io), 8 P02.7 (io), 9 P02.8 (io), 10 P00.0 (io), 13 P41.11/AN23 (in), 14 P41.10/AN22 (in), 15 P41.9/AN21 (in), 16 P41.8/AN20 (in), 17 P41.7/AN19 (in), 18 P41.6/AN18 (in), 19 P41.5/AN17 (in), 20 P41.4/AN16 (in), 21 P41.3/AN15 (in), 22 P41.2/AN14 (in), 23 P41.1/AN13 (in), 24 P41.0/AN12 (in), 25 P40.11/AN11 (in), 26 P40.10/AN10 (in), 27 P40.9/AN9 (in), 28 P40.8/AN8 (in), 29 P40.7/AN7 (in), 34 P40.6/AN6 (in), 35 P40.5/AN5 (in), 36 P40.4/AN4 (in), 37 P40.3/AN3 (in), 38 P40.2/AN2 (in), 39 P40.1/AN1 (in), 40 P40.0/AN0 (in), 41 P33.5 (io), 42 P33.6 (io), 43 P33.7 (io), 44 P33.8 (io), 45 P33.9 (io), 46 P33.10 (io), 51 P23.1 (io), 53 XTAL1, 54 XTAL2, 56 P21.2 (io), 57 P21.3 (io), 58 P21.4 (io), 59 P21.6 (io), 60 TMS/DAP1 (io), 61 P21.7/TDO/DAP2 (io), 62 ~{TRST} (in), 63 TCK/DAP0 (in), 64 P20.2/~{TESTMODE} (in), 65 ~{ESR1} (io), 66 ~{PORST} (in), 67 ~{ESR0} (io), 69 P20.8 (io), 70 P20.9 (io), 71 P20.10 (io), 72 P20.11 (io), 73 P20.12 (io), 74 P20.13 (io), 75 P20.14 (io), 76 P15.0 (io), 77 P15.1 (io), 78 P15.2 (io), 79 P15.3 (io), 80 P15.5 (io), 81 P14.0 (io), 82 P14.1 (io), 83 P14.3 (io), 84 P14.4 (io), 85 P14.6 (io), 87 P13.0 (io), 88 P13.1 (io), 89 P13.2 (io), 90 P13.3 (io), 91 P11.2 (io), 92 P11.3 (io), 93 P11.6 (io), 94 P11.9 (io), 95 P11.8 (io), 96 P11.10 (io), 97 P11.11 (io), 98 P11.12 (io), 99 P10.5 (io), 100 P10.6 (io)
part B pins: 11 VDD (power), 12 VDDP3 (power), 30 VAGND (power), 31 VAREF (power), 32 VSSM (power), 33 VDDM (power), 47 VDDP3 (power), 48 VDD (power), 49 VCAP0 (power), 50 VCAP1 (power), 52 VDD (power), 55 VDDP3 (power), 68 VDD (power), 86 VDDP3 (power), 101 EP (power)

## SAK-TC233L-32F200F AB
designator U?
32-bit multi-core TriCore AURIX microcontroller with 192 KB SRAM, 2 MB Flash, 200 MHz Frequency, -40 to 125 degC, PG-TQFP-100; Manufacturer: Infineon; ADC Chan.: 24; Core 0 TC16E DSPR (KB): 184; Core 0 TC16E PSPR (KB): 8; DFLASH (KB@cycles): 128@125k; ETH: No; Flash (MB): 2; FlexRay (#/ch.): 1 / 2; Freq. (MHz): 200; Total SRAM (KB): 192; Derivative: SAK-TC233L-32F200F AB; DatasheetVersion: Rev. 1.1; PackageReference: PG-TQFP-100-23; PackageDescription: 100-Pin Plastic (Green) Low Profile Quad Flat Package, 12 x 12 mm Body, 0.4 mm Pitch; Supplier 1: Mouser; Supplier Part Number 1: 726-TC233L32F200FABK; HSM: No; Supplier Part Reference: TC233L32F200FABKXUMA1; Mounting Technology: Surface Mount; PartNumber: SAK-TC233L-32F200F AB; ComponentLink1Description: Manufacturer URL; ComponentLink1URL: http://www.infineon.com/
footprint INF-PG-TQFP-100-23-5700X5700TP_V (QFP, 100-Leads, Body 12x12mm, Pitch 0.4mm, Thermal Pad 5.7x5.7mm)
part A pins: 1 P02.0 (io), 2 P02.1 (io), 3 P02.2 (io), 4 P02.3 (io), 5 P02.4 (io), 6 P02.5 (io), 7 P02.6 (io), 8 P02.7 (io), 9 P02.8 (io), 10 P00.0 (io), 13 P41.11/AN23 (in), 14 P41.10/AN22 (in), 15 P41.9/AN21 (in), 16 P41.8/AN20 (in), 17 P41.7/AN19 (in), 18 P41.6/AN18 (in), 19 P41.5/AN17 (in), 20 P41.4/AN16 (in), 21 P41.3/AN15 (in), 22 P41.2/AN14 (in), 23 P41.1/AN13 (in), 24 P41.0/AN12 (in), 25 P40.11/AN11 (in), 26 P40.10/AN10 (in), 27 P40.9/AN9 (in), 28 P40.8/AN8 (in), 29 P40.7/AN7 (in), 34 P40.6/AN6 (in), 35 P40.5/AN5 (in), 36 P40.4/AN4 (in), 37 P40.3/AN3 (in), 38 P40.2/AN2 (in), 39 P40.1/AN1 (in), 40 P40.0/AN0 (in), 41 P33.5 (io), 42 P33.6 (io), 43 P33.7 (io), 44 P33.8 (io), 45 P33.9 (io), 46 P33.10 (io), 51 P23.1 (io), 53 XTAL1, 54 XTAL2, 56 P21.2 (io), 57 P21.3 (io), 58 P21.4 (io), 59 P21.6 (io), 60 TMS/DAP1 (io), 61 P21.7/TDO/DAP2 (io), 62 ~{TRST} (in), 63 TCK/DAP0 (in), 64 P20.2/~{TESTMODE} (in), 65 ~{ESR1} (io), 66 ~{PORST} (in), 67 ~{ESR0} (io), 69 P20.8 (io), 70 P20.9 (io), 71 P20.10 (io), 72 P20.11 (io), 73 P20.12 (io), 74 P20.13 (io), 75 P20.14 (io), 76 P15.0 (io), 77 P15.1 (io), 78 P15.2 (io), 79 P15.3 (io), 80 P15.5 (io), 81 P14.0 (io), 82 P14.1 (io), 83 P14.3 (io), 84 P14.4 (io), 85 P14.6 (io), 87 P13.0 (io), 88 P13.1 (io), 89 P13.2 (io), 90 P13.3 (io), 91 P11.2 (io), 92 P11.3 (io), 93 P11.6 (io), 94 P11.9 (io), 95 P11.8 (io), 96 P11.10 (io), 97 P11.11 (io), 98 P11.12 (io), 99 P10.5 (io), 100 P10.6 (io)
part B pins: 11 VDD (power), 12 VDDP3 (power), 30 VAGND (power), 31 VAREF (power), 32 VSSM (power), 33 VDDM (power), 47 VDDP3 (power), 48 VDD (power), 49 VCAP0 (power), 50 VCAP1 (power), 52 VDD (power), 55 VDDP3 (power), 68 VDD (power), 86 VDDP3 (power), 101 EP (power)

## SAK-TC233LC-24F133F AB
designator U?
32-bit multi-core TriCore AURIX microcontroller with 128 KB SRAM, 1.5 MB Flash, 133 MHz Frequency, -40 to 125 degC, PG-TQFP-100; Manufacturer: Infineon; ADC Chan.: 24; Core 0 TC16E DSPR (KB): 120; Core 0 TC16E PSPR (KB): 8; DFLASH (KB@cycles): 128@125k; ETH: No; Flash (MB): 1.5; FlexRay (#/ch.): 1 / 2; Freq. (MHz): 133; HSM: Yes; Total SRAM (KB): 128; Derivative: SAK-TC233LC-24F133F AB; DatasheetVersion: Rev. 1.1; PackageReference: PG-TQFP-100-23; PackageDescription: 100-Pin Plastic (Green) Low Profile Quad Flat Package, 12 x 12 mm Body, 0.4 mm Pitch; Supplier Part Reference: TC233LC24F133FABKXUMA1; Mounting Technology: Surface Mount; PartNumber: SAK-TC233LC-24F133F AB; ComponentLink1Description: Manufacturer URL; ComponentLink1URL: http://www.infineon.com/
footprint INF-PG-TQFP-100-23-5700X5700TP_V (QFP, 100-Leads, Body 12x12mm, Pitch 0.4mm, Thermal Pad 5.7x5.7mm)
part A pins: 1 P02.0 (io), 2 P02.1 (io), 3 P02.2 (io), 4 P02.3 (io), 5 P02.4 (io), 6 P02.5 (io), 7 P02.6 (io), 8 P02.7 (io), 9 P02.8 (io), 10 P00.0 (io), 13 P41.11/AN23 (in), 14 P41.10/AN22 (in), 15 P41.9/AN21 (in), 16 P41.8/AN20 (in), 17 P41.7/AN19 (in), 18 P41.6/AN18 (in), 19 P41.5/AN17 (in), 20 P41.4/AN16 (in), 21 P41.3/AN15 (in), 22 P41.2/AN14 (in), 23 P41.1/AN13 (in), 24 P41.0/AN12 (in), 25 P40.11/AN11 (in), 26 P40.10/AN10 (in), 27 P40.9/AN9 (in), 28 P40.8/AN8 (in), 29 P40.7/AN7 (in), 34 P40.6/AN6 (in), 35 P40.5/AN5 (in), 36 P40.4/AN4 (in), 37 P40.3/AN3 (in), 38 P40.2/AN2 (in), 39 P40.1/AN1 (in), 40 P40.0/AN0 (in), 41 P33.5 (io), 42 P33.6 (io), 43 P33.7 (io), 44 P33.8 (io), 45 P33.9 (io), 46 P33.10 (io), 51 P23.1 (io), 53 XTAL1, 54 XTAL2, 56 P21.2 (io), 57 P21.3 (io), 58 P21.4 (io), 59 P21.6 (io), 60 TMS/DAP1 (io), 61 P21.7/TDO/DAP2 (io), 62 ~{TRST} (in), 63 TCK/DAP0 (in), 64 P20.2/~{TESTMODE} (in), 65 ~{ESR1} (io), 66 ~{PORST} (in), 67 ~{ESR0} (io), 69 P20.8 (io), 70 P20.9 (io), 71 P20.10 (io), 72 P20.11 (io), 73 P20.12 (io), 74 P20.13 (io), 75 P20.14 (io), 76 P15.0 (io), 77 P15.1 (io), 78 P15.2 (io), 79 P15.3 (io), 80 P15.5 (io), 81 P14.0 (io), 82 P14.1 (io), 83 P14.3 (io), 84 P14.4 (io), 85 P14.6 (io), 87 P13.0 (io), 88 P13.1 (io), 89 P13.2 (io), 90 P13.3 (io), 91 P11.2 (io), 92 P11.3 (io), 93 P11.6 (io), 94 P11.9 (io), 95 P11.8 (io), 96 P11.10 (io), 97 P11.11 (io), 98 P11.12 (io), 99 P10.5 (io), 100 P10.6 (io)
part B pins: 11 VDD (power), 12 VDDP3 (power), 30 VAGND (power), 31 VAREF (power), 32 VSSM (power), 33 VDDM (power), 47 VDDP3 (power), 48 VDD (power), 49 VCAP0 (power), 50 VCAP1 (power), 52 VDD (power), 55 VDDP3 (power), 68 VDD (power), 86 VDDP3 (power), 101 EP (power)

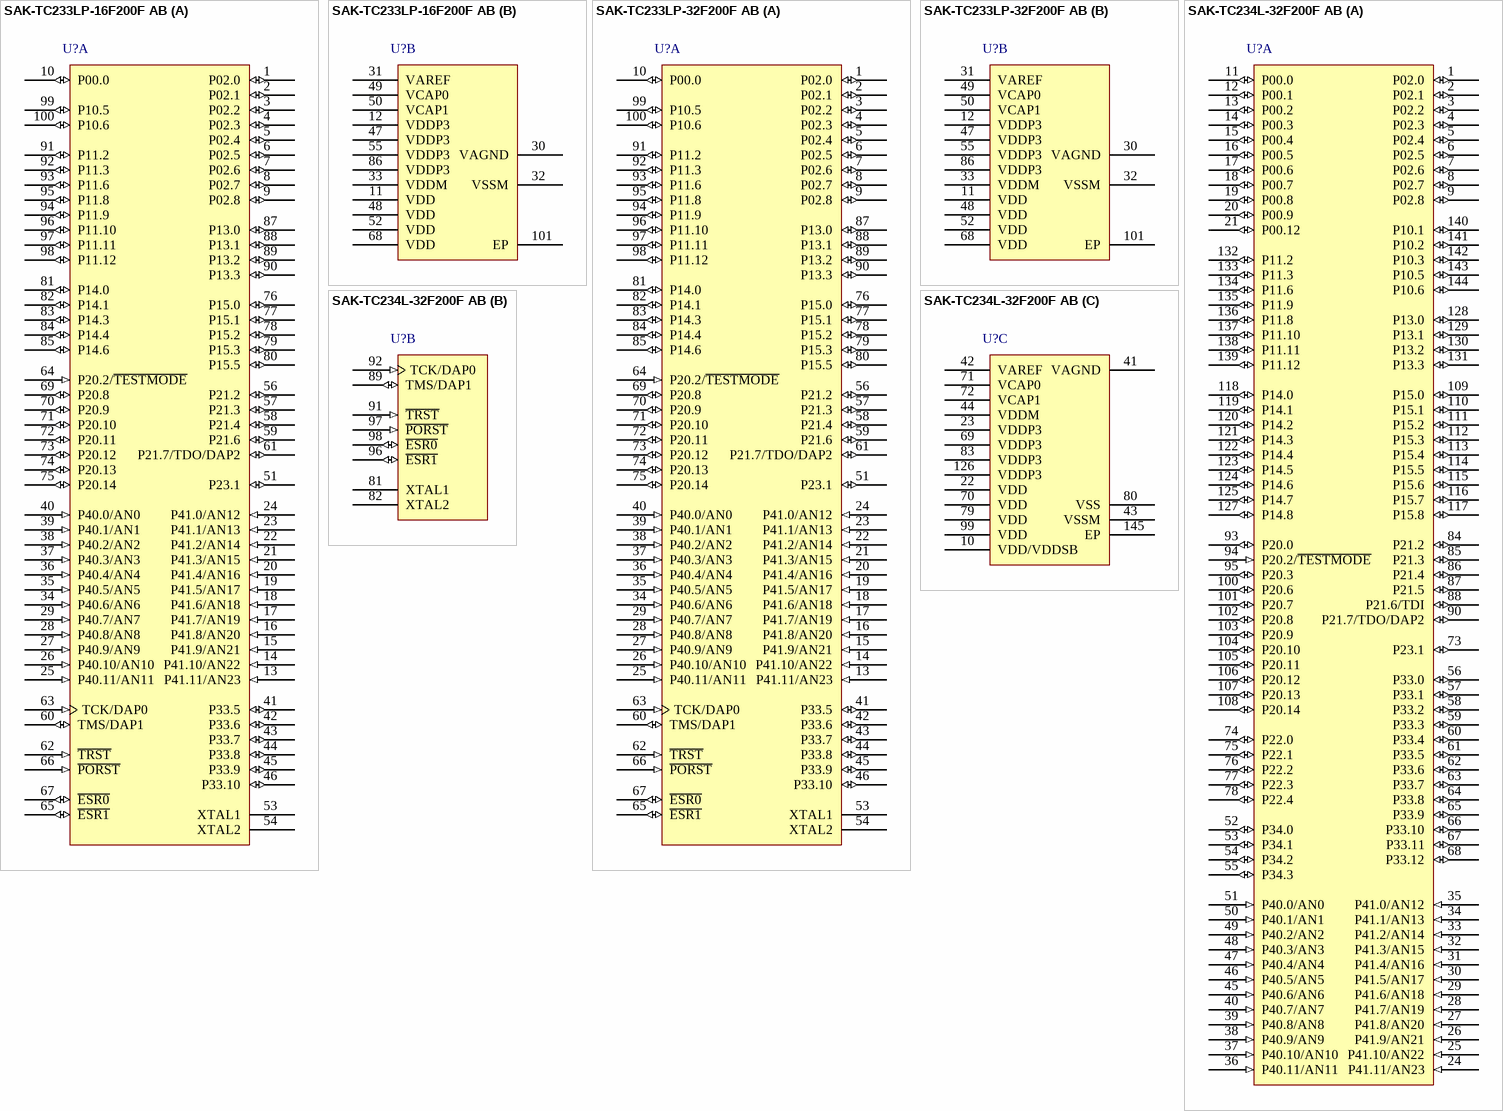
[diagram p4: symbols SAK-TC233LP-16F200F AB to SAK-TC234L-32F200F AB]

## SAK-TC233LP-16F200F AB
designator U?
32-bit multi-core TriCore AURIX microcontroller with 96 KB SRAM, 1 MB Flash, 200 MHz Frequency, -40 to 125 degC, PG-TQFP-100; Manufacturer: Infineon; ADC Chan.: 24; Core 0 TC16E DSPR (KB): 88; Core 0 TC16E PSPR (KB): 8; DFLASH (KB@cycles): 128@125k; ETH: No; Flash (MB): 1; FlexRay (#/ch.): 1 / 2; Freq. (MHz): 200; HSM: Yes; Total SRAM (KB): 96; Derivative: SAK-TC233LP-16F200F AB; DatasheetVersion: Rev. 1.1; PackageReference: PG-TQFP-100-23; PackageDescription: 100-Pin Plastic (Green) Low Profile Quad Flat Package, 12 x 12 mm Body, 0.4 mm Pitch; Supplier Part Reference: TC233LP16F200FABKXUMA1; Mounting Technology: Surface Mount; PartNumber: SAK-TC233LP-16F200F AB; ComponentLink1Description: Manufacturer URL; ComponentLink1URL: http://www.infineon.com/
footprint INF-PG-TQFP-100-23-5700X5700TP_V (QFP, 100-Leads, Body 12x12mm, Pitch 0.4mm, Thermal Pad 5.7x5.7mm)
part A pins: 1 P02.0 (io), 2 P02.1 (io), 3 P02.2 (io), 4 P02.3 (io), 5 P02.4 (io), 6 P02.5 (io), 7 P02.6 (io), 8 P02.7 (io), 9 P02.8 (io), 10 P00.0 (io), 13 P41.11/AN23 (in), 14 P41.10/AN22 (in), 15 P41.9/AN21 (in), 16 P41.8/AN20 (in), 17 P41.7/AN19 (in), 18 P41.6/AN18 (in), 19 P41.5/AN17 (in), 20 P41.4/AN16 (in), 21 P41.3/AN15 (in), 22 P41.2/AN14 (in), 23 P41.1/AN13 (in), 24 P41.0/AN12 (in), 25 P40.11/AN11 (in), 26 P40.10/AN10 (in), 27 P40.9/AN9 (in), 28 P40.8/AN8 (in), 29 P40.7/AN7 (in), 34 P40.6/AN6 (in), 35 P40.5/AN5 (in), 36 P40.4/AN4 (in), 37 P40.3/AN3 (in), 38 P40.2/AN2 (in), 39 P40.1/AN1 (in), 40 P40.0/AN0 (in), 41 P33.5 (io), 42 P33.6 (io), 43 P33.7 (io), 44 P33.8 (io), 45 P33.9 (io), 46 P33.10 (io), 51 P23.1 (io), 53 XTAL1, 54 XTAL2, 56 P21.2 (io), 57 P21.3 (io), 58 P21.4 (io), 59 P21.6 (io), 60 TMS/DAP1 (io), 61 P21.7/TDO/DAP2 (io), 62 ~{TRST} (in), 63 TCK/DAP0 (in), 64 P20.2/~{TESTMODE} (in), 65 ~{ESR1} (io), 66 ~{PORST} (in), 67 ~{ESR0} (io), 69 P20.8 (io), 70 P20.9 (io), 71 P20.10 (io), 72 P20.11 (io), 73 P20.12 (io), 74 P20.13 (io), 75 P20.14 (io), 76 P15.0 (io), 77 P15.1 (io), 78 P15.2 (io), 79 P15.3 (io), 80 P15.5 (io), 81 P14.0 (io), 82 P14.1 (io), 83 P14.3 (io), 84 P14.4 (io), 85 P14.6 (io), 87 P13.0 (io), 88 P13.1 (io), 89 P13.2 (io), 90 P13.3 (io), 91 P11.2 (io), 92 P11.3 (io), 93 P11.6 (io), 94 P11.9 (io), 95 P11.8 (io), 96 P11.10 (io), 97 P11.11 (io), 98 P11.12 (io), 99 P10.5 (io), 100 P10.6 (io)
part B pins: 11 VDD (power), 12 VDDP3 (power), 30 VAGND (power), 31 VAREF (power), 32 VSSM (power), 33 VDDM (power), 47 VDDP3 (power), 48 VDD (power), 49 VCAP0 (power), 50 VCAP1 (power), 52 VDD (power), 55 VDDP3 (power), 68 VDD (power), 86 VDDP3 (power), 101 EP (power)

## SAK-TC233LP-32F200F AB
designator U?
32-bit multi-core TriCore AURIX microcontroller with 192 KB SRAM, 2 MB Flash, 200 MHz Frequency, -40 to 125 degC, PG-TQFP-100; Manufacturer: Infineon; ADC Chan.: 24; Core 0 TC16E DSPR (KB): 184; Core 0 TC16E PSPR (KB): 8; DFLASH (KB@cycles): 128@125k; ETH: No; Flash (MB): 2; FlexRay (#/ch.): 1 / 2; Freq. (MHz): 200; HSM: Yes; Total SRAM (KB): 192; Derivative: SAK-TC233LP-32F200F AB; DatasheetVersion: Rev. 1.1; PackageReference: PG-TQFP-100-23; PackageDescription: 100-Pin Plastic (Green) Low Profile Quad Flat Package, 12 x 12 mm Body, 0.4 mm Pitch; Supplier 1: Mouser; Supplier Part Number 1: 726-TC233LP32F200FAB; Supplier Part Reference: TC233LP32F200FABKXUMA1; Mounting Technology: Surface Mount; PartNumber: SAK-TC233LP-32F200F AB; ComponentLink1Description: Manufacturer URL; ComponentLink1URL: http://www.infineon.com/
footprint INF-PG-TQFP-100-23-5700X5700TP_V (QFP, 100-Leads, Body 12x12mm, Pitch 0.4mm, Thermal Pad 5.7x5.7mm)
part A pins: 1 P02.0 (io), 2 P02.1 (io), 3 P02.2 (io), 4 P02.3 (io), 5 P02.4 (io), 6 P02.5 (io), 7 P02.6 (io), 8 P02.7 (io), 9 P02.8 (io), 10 P00.0 (io), 13 P41.11/AN23 (in), 14 P41.10/AN22 (in), 15 P41.9/AN21 (in), 16 P41.8/AN20 (in), 17 P41.7/AN19 (in), 18 P41.6/AN18 (in), 19 P41.5/AN17 (in), 20 P41.4/AN16 (in), 21 P41.3/AN15 (in), 22 P41.2/AN14 (in), 23 P41.1/AN13 (in), 24 P41.0/AN12 (in), 25 P40.11/AN11 (in), 26 P40.10/AN10 (in), 27 P40.9/AN9 (in), 28 P40.8/AN8 (in), 29 P40.7/AN7 (in), 34 P40.6/AN6 (in), 35 P40.5/AN5 (in), 36 P40.4/AN4 (in), 37 P40.3/AN3 (in), 38 P40.2/AN2 (in), 39 P40.1/AN1 (in), 40 P40.0/AN0 (in), 41 P33.5 (io), 42 P33.6 (io), 43 P33.7 (io), 44 P33.8 (io), 45 P33.9 (io), 46 P33.10 (io), 51 P23.1 (io), 53 XTAL1, 54 XTAL2, 56 P21.2 (io), 57 P21.3 (io), 58 P21.4 (io), 59 P21.6 (io), 60 TMS/DAP1 (io), 61 P21.7/TDO/DAP2 (io), 62 ~{TRST} (in), 63 TCK/DAP0 (in), 64 P20.2/~{TESTMODE} (in), 65 ~{ESR1} (io), 66 ~{PORST} (in), 67 ~{ESR0} (io), 69 P20.8 (io), 70 P20.9 (io), 71 P20.10 (io), 72 P20.11 (io), 73 P20.12 (io), 74 P20.13 (io), 75 P20.14 (io), 76 P15.0 (io), 77 P15.1 (io), 78 P15.2 (io), 79 P15.3 (io), 80 P15.5 (io), 81 P14.0 (io), 82 P14.1 (io), 83 P14.3 (io), 84 P14.4 (io), 85 P14.6 (io), 87 P13.0 (io), 88 P13.1 (io), 89 P13.2 (io), 90 P13.3 (io), 91 P11.2 (io), 92 P11.3 (io), 93 P11.6 (io), 94 P11.9 (io), 95 P11.8 (io), 96 P11.10 (io), 97 P11.11 (io), 98 P11.12 (io), 99 P10.5 (io), 100 P10.6 (io)
part B pins: 11 VDD (power), 12 VDDP3 (power), 30 VAGND (power), 31 VAREF (power), 32 VSSM (power), 33 VDDM (power), 47 VDDP3 (power), 48 VDD (power), 49 VCAP0 (power), 50 VCAP1 (power), 52 VDD (power), 55 VDDP3 (power), 68 VDD (power), 86 VDDP3 (power), 101 EP (power)

## SAK-TC234L-32F200F AB
designator U?
32-bit multi-core TriCore AURIX microcontroller with 192 KB SRAM, 2 MB Flash, 200 MHz Frequency, -40 to 125 degC, PG-TQFP-144; Manufacturer: Infineon; ADC Chan.: 24; Core 0 TC16E DSPR (KB): 184; Core 0 TC16E PSPR (KB): 8; DFLASH (KB@cycles): 128@125k; ETH: No; Flash (MB): 2; FlexRay (#/ch.): 1 / 2; Freq. (MHz): 200; Total SRAM (KB): 192; Derivative: SAK-TC234L-32F200F AB; DatasheetVersion: Rev. 1.1; PackageReference: PG-TQFP-144-27; PackageDescription: 144-Pin Plastic (Green) Low Profile Quad Flat Package, 16 x 16 mm Body, 0.4 mm Pitch; Supplier 1: Mouser; Supplier Part Number 1: 726-TC234L32F200FABK; HSM: No; Supplier Part Reference: TC234L32F200FABKXUMA1; Mounting Technology: Surface Mount; PartNumber: SAK-TC234L-32F200F AB; ComponentLink1Description: Manufacturer URL; ComponentLink1URL: http://www.infineon.com/
footprint INF-PG-TQFP-144-27-5700X5700TP_V (QFP, 144-Leads, Body 16x16mm, Pitch 0.4mm, Thermal Pad 5.7x5.7mm)
part A pins: 1 P02.0 (io), 2 P02.1 (io), 3 P02.2 (io), 4 P02.3 (io), 5 P02.4 (io), 6 P02.5 (io), 7 P02.6 (io), 8 P02.7 (io), 9 P02.8 (io), 11 P00.0 (io), 12 P00.1 (io), 13 P00.2 (io), 14 P00.3 (io), 15 P00.4 (io), 16 P00.5 (io), 17 P00.6 (io), 18 P00.7 (io), 19 P00.8 (io), 20 P00.9 (io), 21 P00.12 (io), 24 P41.11/AN23 (in), 25 P41.10/AN22 (in), 26 P41.9/AN21 (in), 27 P41.8/AN20 (in), 28 P41.7/AN19 (in), 29 P41.6/AN18 (in), 30 P41.5/AN17 (in), 31 P41.4/AN16 (in), 32 P41.3/AN15 (in), 33 P41.2/AN14 (in), 34 P41.1/AN13 (in), 35 P41.0/AN12 (in), 36 P40.11/AN11 (in), 37 P40.10/AN10 (in), 38 P40.9/AN9 (in), 39 P40.8/AN8 (in), 40 P40.7/AN7 (in), 45 P40.6/AN6 (in), 46 P40.5/AN5 (in), 47 P40.4/AN4 (in), 48 P40.3/AN3 (in), 49 P40.2/AN2 (in), 50 P40.1/AN1 (in), 51 P40.0/AN0 (in), 52 P34.0 (io), 53 P34.1 (io), 54 P34.2 (io), 55 P34.3 (io), 56 P33.0 (io), 57 P33.1 (io), 58 P33.2 (io), 59 P33.3 (io), 60 P33.4 (io), 61 P33.5 (io), 62 P33.6 (io), 63 P33.7 (io), 64 P33.8 (io), 65 P33.9 (io), 66 P33.10 (io), 67 P33.11 (io), 68 P33.12 (io), 73 P23.1 (io), 74 P22.0 (io), 75 P22.1 (io), 76 P22.2 (io), 77 P22.3 (io), 78 P22.4 (io), 84 P21.2 (io), 85 P21.3 (io), 86 P21.4 (io), 87 P21.5 (io), 88 P21.6/TDI (io), 90 P21.7/TDO/DAP2 (io), 93 P20.0 (io), 94 P20.2/~{TESTMODE} (in), 95 P20.3 (io), 100 P20.6 (io), 101 P20.7 (io), 102 P20.8 (io), 103 P20.9 (io), 104 P20.10 (io), 105 P20.11 (io), 106 P20.12 (io), 107 P20.13 (io), 108 P20.14 (io), 109 P15.0 (io), 110 P15.1 (io), 111 P15.2 (io), 112 P15.3 (io), 113 P15.4 (io), 114 P15.5 (io), 115 P15.6 (io), 116 P15.7 (io), 117 P15.8 (io), 118 P14.0 (io), 119 P14.1 (io), 120 P14.2 (io), 121 P14.3 (io), 122 P14.4 (io), 123 P14.5 (io), 124 P14.6 (io), 125 P14.7 (io), 127 P14.8 (io), 128 P13.0 (io), 129 P13.1 (io), 130 P13.2 (io), 131 P13.3 (io), 132 P11.2 (io), 133 P11.3 (io), 134 P11.6 (io), 135 P11.9 (io), 136 P11.8 (io), 137 P11.10 (io), 138 P11.11 (io), 139 P11.12 (io), 140 P10.1 (io), 141 P10.2 (io), 142 P10.3 (io), 143 P10.5 (io), 144 P10.6 (io)
part B pins: 81 XTAL1, 82 XTAL2, 89 TMS/DAP1 (io), 91 ~{TRST} (in), 92 TCK/DAP0 (in), 96 ~{ESR1} (io), 97 ~{PORST} (in), 98 ~{ESR0} (io)
part C pins: 10 VDD/VDDSB (power), 22 VDD (power), 23 VDDP3 (power), 41 VAGND (power), 42 VAREF (power), 43 VSSM (power), 44 VDDM (power), 69 VDDP3 (power), 70 VDD (power), 71 VCAP0 (power), 72 VCAP1 (power), 79 VDD (power), 80 VSS (power), 83 VDDP3 (power), 99 VDD (power), 126 VDDP3 (power), 145 EP (power)

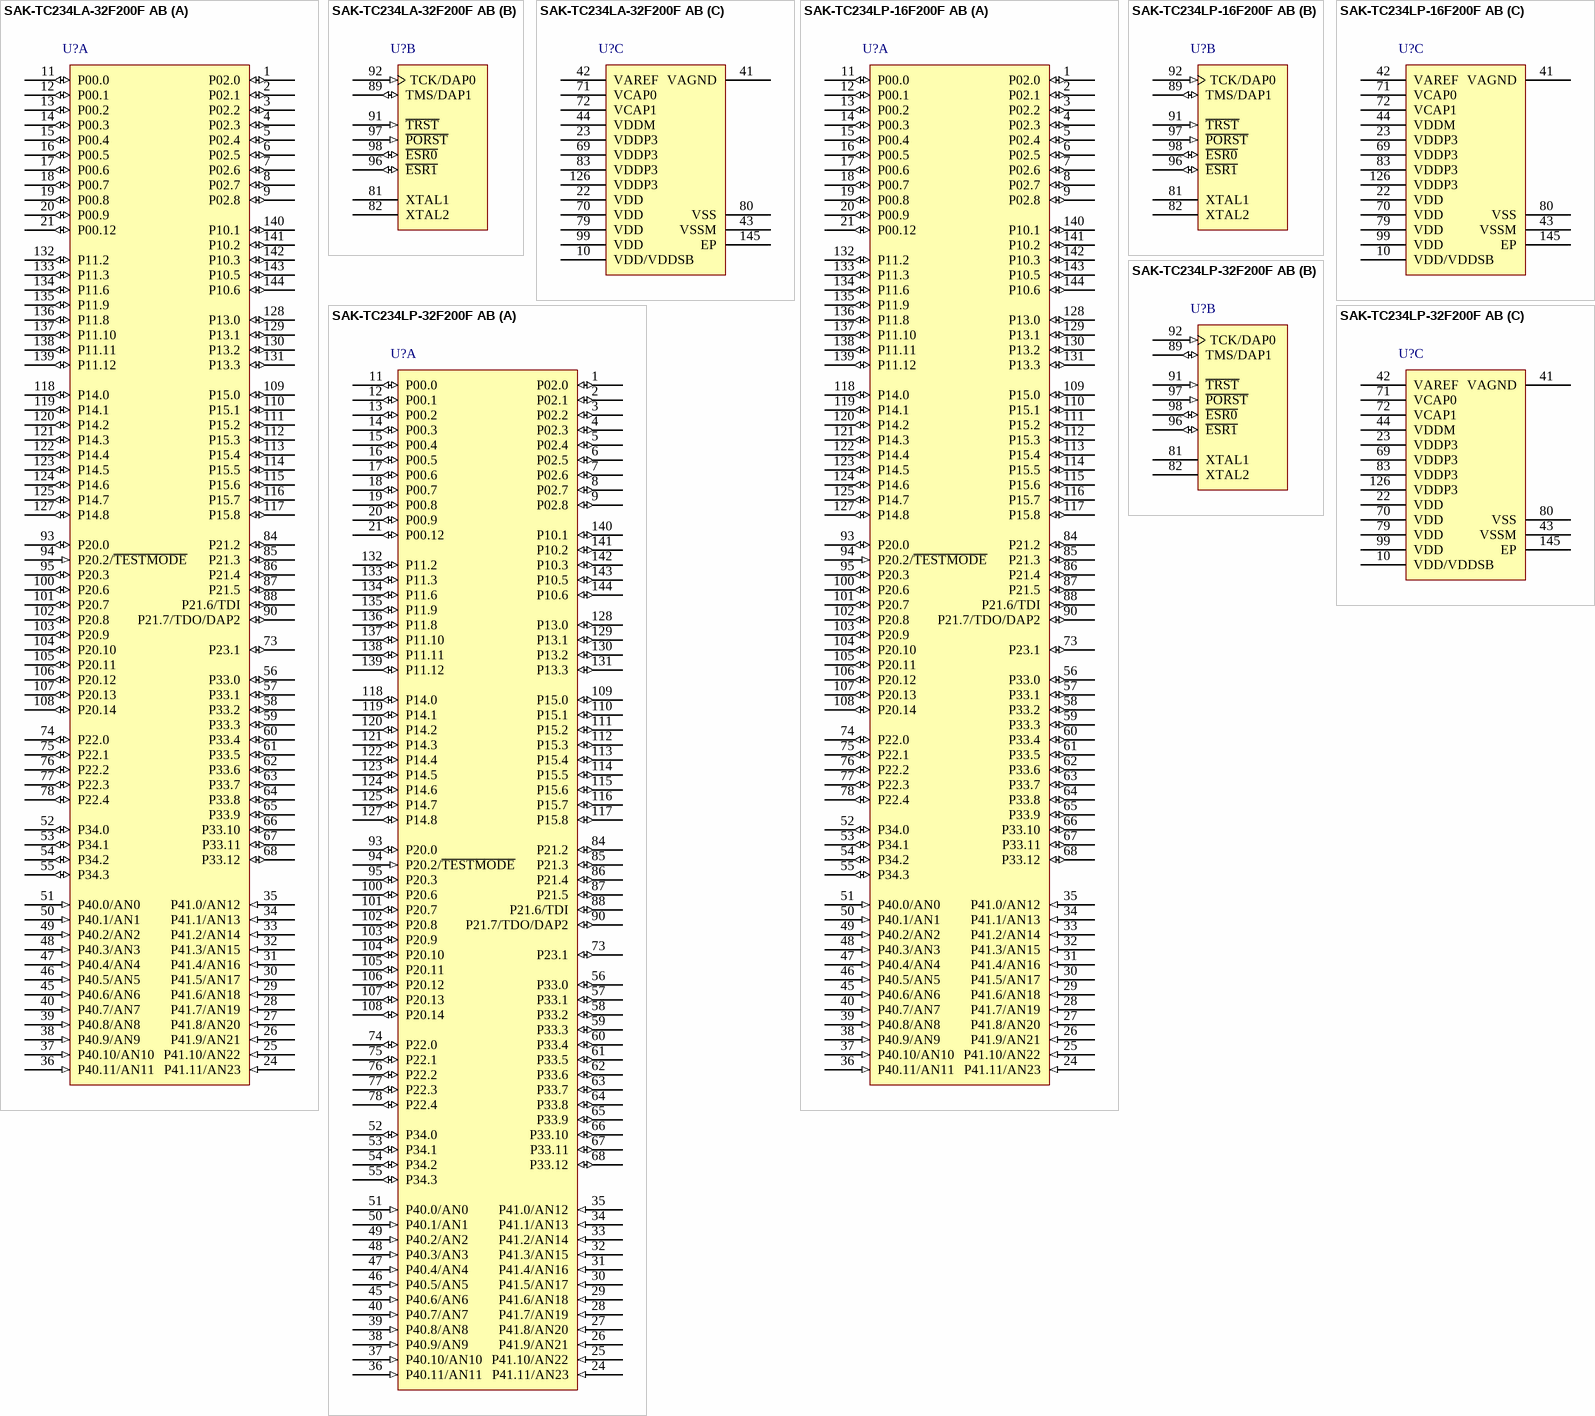
[diagram p5: symbols SAK-TC234LA-32F200F AB to SAK-TC234LP-32F200F AB]

## SAK-TC234LA-32F200F AB
designator U?
32-bit multi-core TriCore AURIX microcontroller with 736 KB SRAM, 2 MB Flash, 200 MHz Frequency, -40 to 125 degC, PG-TQFP-144; Manufacturer: Infineon; ADC Chan.: 24; Core 0 TC16E DSPR (KB): 184; Core 0 TC16E PSPR (KB): 8; DFLASH (KB@cycles): 128@125k; ETH: Yes; Flash (MB): 2; FlexRay (#/ch.): 1 / 2; Freq. (MHz): 200; LMU (KB): 32; Total SRAM (KB): 736; Derivative: SAK-TC234LA-32F200F AB; DatasheetVersion: Rev. 1.1; PackageReference: PG-TQFP-144-27_LX; PackageDescription: 144-Pin Plastic (Green) Thin Quad Flat Package, 16 x 16 mm Body, 0.4 mm Pitch; Supplier 1: Mouser; Supplier Part Number 1: 726-TC234LA32F200FAB; FFT: Yes; HSM: Yes; Supplier Part Reference: TC234LA32F200FABKXUMA1; Mounting Technology: Surface Mount; PartNumber: SAK-TC234LA-32F200F AB; ComponentLink1Description: Manufacturer URL; ComponentLink1URL: http://www.infineon.com/
footprint INF-PG-TQFP-144-27_7500X7500TP_V (QFP, 144-Leads, Body 16x16mm, Pitch 0.4mm, Thermal Pad 7.5x7.5mm)
part A pins: 1 P02.0 (io), 2 P02.1 (io), 3 P02.2 (io), 4 P02.3 (io), 5 P02.4 (io), 6 P02.5 (io), 7 P02.6 (io), 8 P02.7 (io), 9 P02.8 (io), 11 P00.0 (io), 12 P00.1 (io), 13 P00.2 (io), 14 P00.3 (io), 15 P00.4 (io), 16 P00.5 (io), 17 P00.6 (io), 18 P00.7 (io), 19 P00.8 (io), 20 P00.9 (io), 21 P00.12 (io), 24 P41.11/AN23 (in), 25 P41.10/AN22 (in), 26 P41.9/AN21 (in), 27 P41.8/AN20 (in), 28 P41.7/AN19 (in), 29 P41.6/AN18 (in), 30 P41.5/AN17 (in), 31 P41.4/AN16 (in), 32 P41.3/AN15 (in), 33 P41.2/AN14 (in), 34 P41.1/AN13 (in), 35 P41.0/AN12 (in), 36 P40.11/AN11 (in), 37 P40.10/AN10 (in), 38 P40.9/AN9 (in), 39 P40.8/AN8 (in), 40 P40.7/AN7 (in), 45 P40.6/AN6 (in), 46 P40.5/AN5 (in), 47 P40.4/AN4 (in), 48 P40.3/AN3 (in), 49 P40.2/AN2 (in), 50 P40.1/AN1 (in), 51 P40.0/AN0 (in), 52 P34.0 (io), 53 P34.1 (io), 54 P34.2 (io), 55 P34.3 (io), 56 P33.0 (io), 57 P33.1 (io), 58 P33.2 (io), 59 P33.3 (io), 60 P33.4 (io), 61 P33.5 (io), 62 P33.6 (io), 63 P33.7 (io), 64 P33.8 (io), 65 P33.9 (io), 66 P33.10 (io), 67 P33.11 (io), 68 P33.12 (io), 73 P23.1 (io), 74 P22.0 (io), 75 P22.1 (io), 76 P22.2 (io), 77 P22.3 (io), 78 P22.4 (io), 84 P21.2 (io), 85 P21.3 (io), 86 P21.4 (io), 87 P21.5 (io), 88 P21.6/TDI (io), 90 P21.7/TDO/DAP2 (io), 93 P20.0 (io), 94 P20.2/~{TESTMODE} (in), 95 P20.3 (io), 100 P20.6 (io), 101 P20.7 (io), 102 P20.8 (io), 103 P20.9 (io), 104 P20.10 (io), 105 P20.11 (io), 106 P20.12 (io), 107 P20.13 (io), 108 P20.14 (io), 109 P15.0 (io), 110 P15.1 (io), 111 P15.2 (io), 112 P15.3 (io), 113 P15.4 (io), 114 P15.5 (io), 115 P15.6 (io), 116 P15.7 (io), 117 P15.8 (io), 118 P14.0 (io), 119 P14.1 (io), 120 P14.2 (io), 121 P14.3 (io), 122 P14.4 (io), 123 P14.5 (io), 124 P14.6 (io), 125 P14.7 (io), 127 P14.8 (io), 128 P13.0 (io), 129 P13.1 (io), 130 P13.2 (io), 131 P13.3 (io), 132 P11.2 (io), 133 P11.3 (io), 134 P11.6 (io), 135 P11.9 (io), 136 P11.8 (io), 137 P11.10 (io), 138 P11.11 (io), 139 P11.12 (io), 140 P10.1 (io), 141 P10.2 (io), 142 P10.3 (io), 143 P10.5 (io), 144 P10.6 (io)
part B pins: 81 XTAL1, 82 XTAL2, 89 TMS/DAP1 (io), 91 ~{TRST} (in), 92 TCK/DAP0 (in), 96 ~{ESR1} (io), 97 ~{PORST} (in), 98 ~{ESR0} (io)
part C pins: 10 VDD/VDDSB (power), 22 VDD (power), 23 VDDP3 (power), 41 VAGND (power), 42 VAREF (power), 43 VSSM (power), 44 VDDM (power), 69 VDDP3 (power), 70 VDD (power), 71 VCAP0 (power), 72 VCAP1 (power), 79 VDD (power), 80 VSS (power), 83 VDDP3 (power), 99 VDD (power), 126 VDDP3 (power), 145 EP (power)